# Altium schematic symbol library IC.SchLib: 96 symbols
Pins are listed as number, name and electrical type; pins without a type are passive.

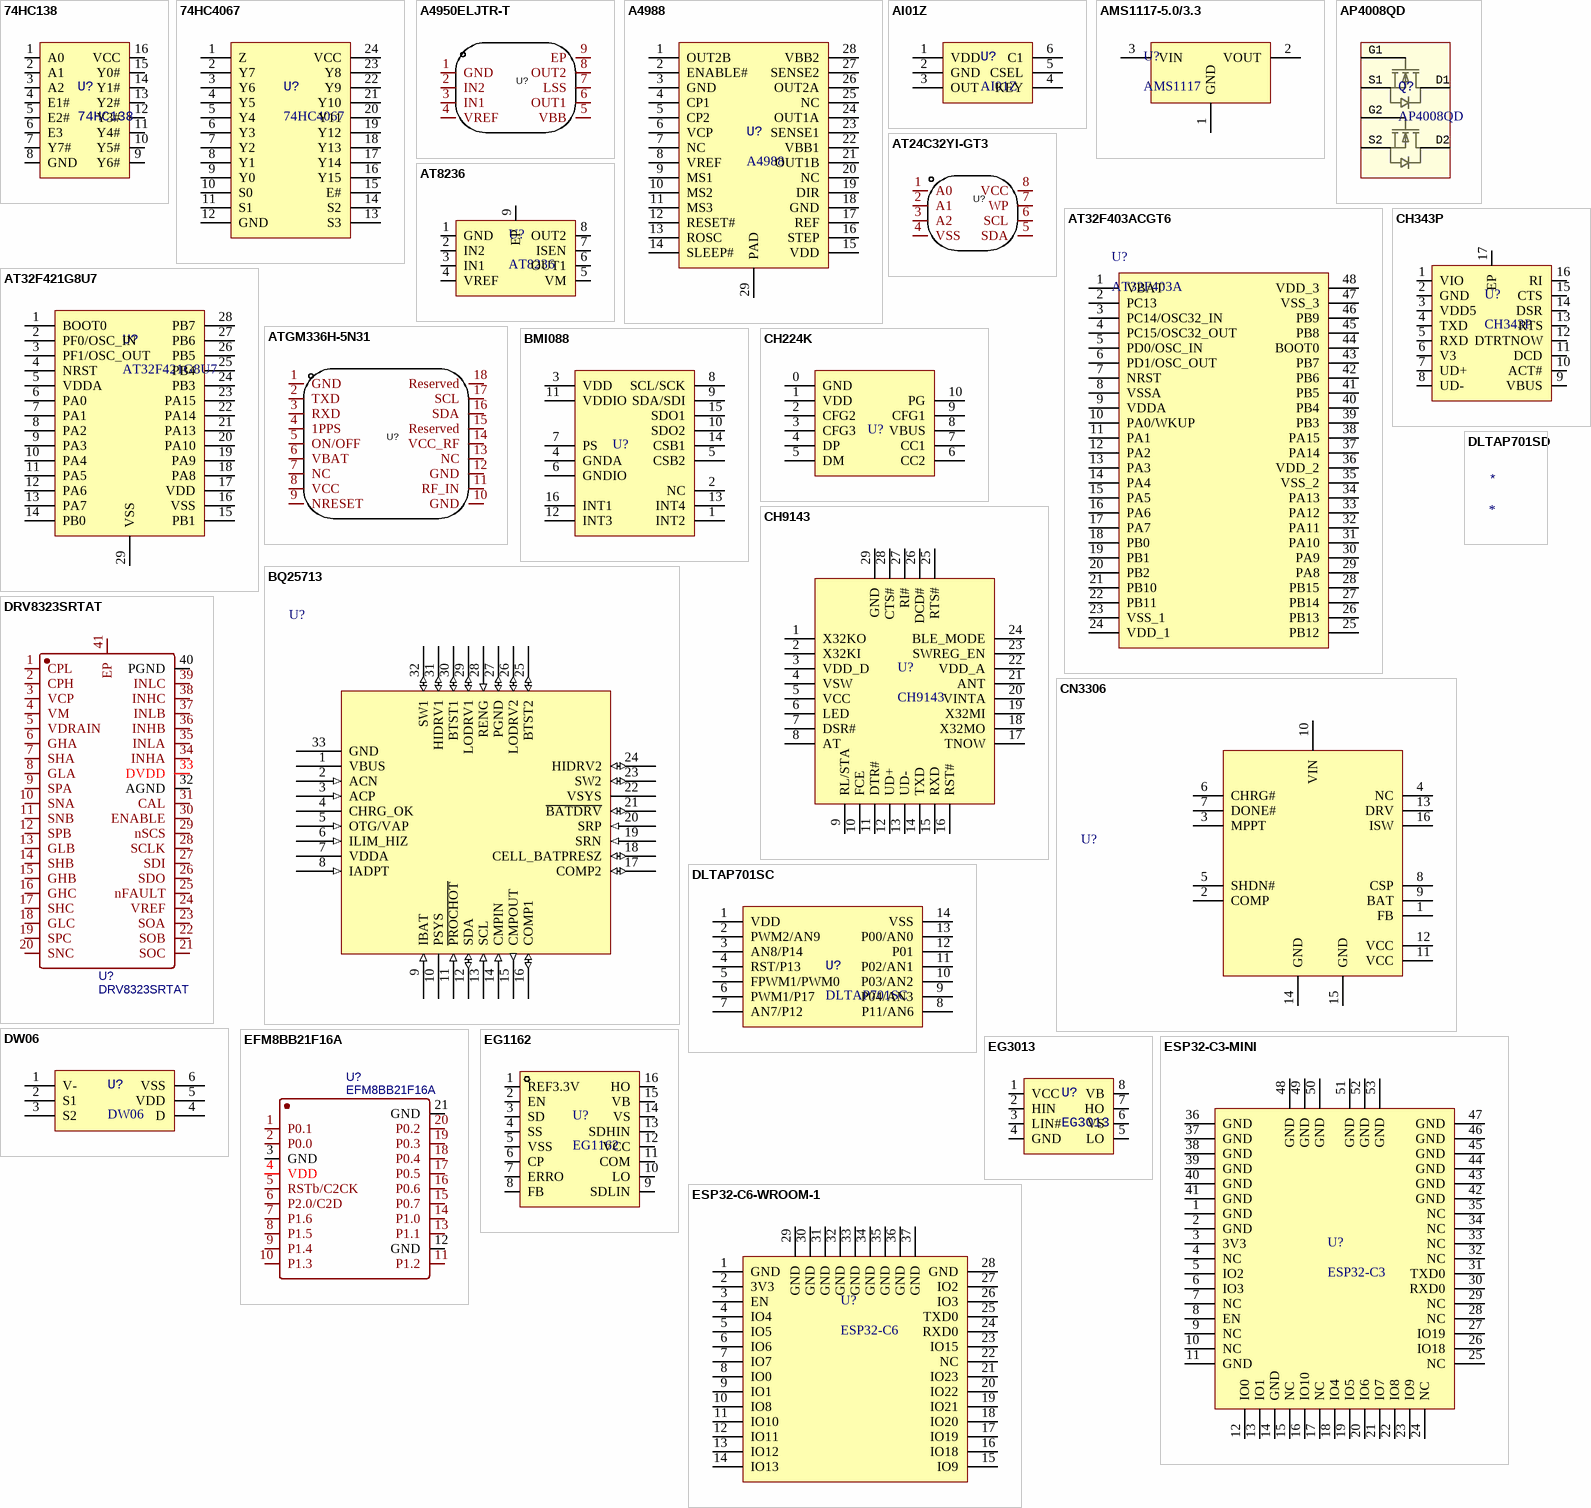
[diagram p0: symbols 74HC138 to ESP32-C6-WROOM-1]

## 74HC138
designator U?
footprint SOP-16_L9.9-W3.9-P1.27-LS6.0-BL
pins: 1 A0, 2 A1, 3 A2, 4 E1#, 5 E2#, 6 E3, 7 Y7#, 8 GND, 9 Y6#, 10 Y5#, 11 Y4#, 12 Y3#, 13 Y2#, 14 Y1#, 15 Y0#, 16 VCC

## 74HC4067
designator U?
footprint SOIC-24_L15.4-W7.5-P1.27-LS10.3-BL
pins: 1 Z, 2 Y7, 3 Y6, 4 Y5, 5 Y4, 6 Y3, 7 Y2, 8 Y1, 9 Y0, 10 S0, 11 S1, 12 GND, 13 S3, 14 S2, 15 E#, 16 Y15, 17 Y14, 18 Y13, 19 Y12, 20 Y11, 21 Y10, 22 Y9, 23 Y8, 24 VCC

## A4950ELJTR-T
designator U?  (value not drawn)
Manufacturer: ALLEGRO(美国埃戈罗); Add into BOM: yes; Name: A4950ELJTR-T; Symbol: A4950ELJTR-T; Device: A4950ELJTR-T; LCSC Part Name: A4950ELJTR-T; Supplier Part: C82404; Manufacturer Part: A4950ELJTR-T; Supplier Footprint: SOIC-8_EP_150mil; JLCPCB Part Class: Extended Part; Datasheet: https://atta.szlcsc.com/upload/public/pdf/source/20161024/1477288450284.pdf; Supplier: LCSC; Convert to PCB: yes
footprint SOIC-8_L4.9-W3.9-P1.27-LS6.0-BL-EP
pins: 1 GND, 2 IN2, 3 IN1, 4 VREF, 5 VBB, 6 OUT1, 7 LSS, 8 OUT2, 9 EP

## A4988
designator U?
footprint WQFN-28_L5.0-W5.0-P0.50-BL-EP3.2
pins: 1 OUT2B, 2 ENABLE#, 3 GND, 4 CP1, 5 CP2, 6 VCP, 7 NC, 8 VREF, 9 MS1, 10 MS2, 11 MS3, 12 RESET#, 13 ROSC, 14 SLEEP#, 15 VDD, 16 STEP, 17 REF, 18 GND, 19 DIR, 20 NC, 21 OUT1B, 22 VBB1, 23 SENSE1, 24 OUT1A, 25 NC, 26 OUT2A, 27 SENSE2, 28 VBB2, 29 PAD

## AI01Z
designator U?
footprint SOT-23-6_L2.9-W1.6-P0.95-LS2.8-TL
pins: 1 VDD, 2 GND, 3 OUT, 4 KEY, 5 CSEL, 6 C1

## AMS1117-5.0/3.3
designator U?, comment AMS1117
footprint SOT-223_L6.7-W3.5-P2.30-BR
footprint SOT-89_L4.5-W2.5-P1.50-LS4.2-BR
pins: 1 GND, 2 VOUT, 3 VIN

## AP4008QD
designator Q?
footprint DFN-8_L3.2-W3.2-P0.65-LS3.4-BL-EP
pins: 1 S1, 2 G1, 3 S2, 4 G2, 5 D2, 6 D1

## AT24C32YI-GT3
designator U?, comment CAT24C32YI-GT3  (value not drawn)
Manufacturer: onsemi(安森美); Add into BOM: yes; Name: CAT24C32YI-GT3; Symbol: CAT24C32YI-GT3; Device: CAT24C32YI-GT3; LCSC Part Name: CAT24C32YI-GT3; Supplier Part: C94264; Manufacturer Part: CAT24C32YI-GT3; Supplier Footprint: TSSOP-8-3.0mm; JLCPCB Part Class: Extended Part; Datasheet: https://atta.szlcsc.com/upload/public/pdf/source/20180713/C94264_8C8F7CE8A04B19AA8501D6BFE0F814F1.pdf; Supplier: LCSC; Convert to PCB: yes
footprint TSSOP-8_L4.4-W3.0-P0.65-LS6.4-BL
pins: 1 A0, 2 A1, 3 A2, 4 VSS, 5 SDA, 6 SCL, 7 WP, 8 VCC

## AT32F403ACGT6
designator U?, comment AT32F403A
footprint LQFP-48_L7.0-W7.0-P0.50-LS9.0-BL
pins: 1 VBAT, 2 PC13, 3 PC14/OSC32_IN, 4 PC15/OSC32_OUT, 5 PD0/OSC_IN, 6 PD1/OSC_OUT, 7 NRST, 8 VSSA, 9 VDDA, 10 PA0/WKUP, 11 PA1, 12 PA2, 13 PA3, 14 PA4, 15 PA5, 16 PA6, 17 PA7, 18 PB0, 19 PB1, 20 PB2, 21 PB10, 22 PB11, 23 VSS_1, 24 VDD_1, 25 PB12, 26 PB13, 27 PB14, 28 PB15, 29 PA8, 30 PA9, 31 PA10, 32 PA11, 33 PA12, 34 PA13, 35 VSS_2, 36 VDD_2, 37 PA14, 38 PA15, 39 PB3, 40 PB4, 41 PB5, 42 PB6, 43 PB7, 44 BOOT0, 45 PB8, 46 PB9, 47 VSS_3, 48 VDD_3

## AT32F421G8U7
designator U?
footprint QFN-28_L4.0-W4.0-P0.40-TL-EP2.4
pins: 1 BOOT0, 2 PF0/OSC_IN, 3 PF1/OSC_OUT, 4 NRST, 5 VDDA, 6 PA0, 7 PA1, 8 PA2, 9 PA3, 10 PA4, 11 PA5, 12 PA6, 13 PA7, 14 PB0, 15 PB1, 16 VSS, 17 VDD, 18 PA8, 19 PA9, 20 PA10, 21 PA13, 22 PA14, 23 PA15, 24 PB3, 25 PB4, 26 PB5, 27 PB6, 28 PB7, 29 VSS

## AT8236
designator U?
footprint ESOP-8_L4.9-W3.9-P1.27-LS6.0-BL-EP
pins: 1 GND, 2 IN2, 3 IN1, 4 VREF, 5 VM, 6 OUT1, 7 ISEN, 8 OUT2, 9 EP

## ATGM336H-5N31
designator U?  (value not drawn)
Manufacturer: 杭州中科微; Add into BOM: yes; Name: ATGM336H-5N31; Symbol: ATGM336H-5N31; Device: ATGM336H-5N31; LCSC Part Name: BDS/GNSS 全星座定位导航模块; Supplier Part: C90770; Manufacturer Part: ATGM336H-5N31; Supplier Footprint: SMD,9.7x10.1mm; JLCPCB Part Class: Extended Part; Datasheet: https://atta.szlcsc.com/upload/public/pdf/source/20161226/1482720799860.pdf; Supplier: LCSC; Convert to PCB: yes
footprint GPSM-SMD_ATGM336H-TR
pins: 1 GND, 2 TXD, 3 RXD, 4 1PPS, 5 ON/OFF, 6 VBAT, 7 NC, 8 VCC, 9 NRESET, 10 GND, 11 RF_IN, 12 GND, 13 NC, 14 VCC_RF, 15 Reserved, 16 SDA, 17 SCL, 18 Reserved

## BMI088
designator U?  (value not drawn)
footprint LGA-16_L4.5-W3.0-P0.50-BL
pins: 1 INT2, 2 NC, 3 VDD, 4 GNDA, 5 CSB2, 6 GNDIO, 7 PS, 8 SCL/SCK, 9 SDA/SDI, 10 SDO2, 11 VDDIO, 12 INT3, 13 INT4, 14 CSB1, 15 SDO1, 16 INT1

## BQ25713
designator U?  (value not drawn)
footprint QFN-32_L4.0-W4.0-P0.40-TL-EP2.8
pins: 1 VBUS (power), 2 ACN (in), 3 ACP (in), 4 CHRG_OK (oc), 5 OTG/VAP (in), 6 ILIM_HIZ (in), 7 VDDA (power), 8 IADPT (in), 9 IBAT (in), 10 PSYS (power), 11 ~{PROCHOT} (in), 12 SDA (io), 13 SCL (in), 14 CMPIN (in), 15 CMPOUT (out), 16 COMP1 (io), 17 COMP2 (io), 18 CELL_BATPRESZ (io), 19 SRN (in), 20 SRP (in), 21 ~{BATDRV} (io), 22 VSYS (power), 23 SW2 (io), 24 HIDRV2 (io), 25 BTST2 (io), 26 LODRV2 (io), 27 PGND (io), 28 RENG (in), 29 LODRV1 (io), 30 BTST1 (io), 31 HIDRV1 (io), 32 SW1 (io), 33 GND (power)

## CH224K
designator U?  (value not drawn)
footprint ESSOP-10_L4.9-W3.9-P1.0-LS6.0-TL-EP
pins: 0 GND, 1 VDD, 2 CFG2, 3 CFG3, 4 DP, 5 DM, 6 CC2, 7 CC1, 8 VBUS, 9 CFG1, 10 PG

## CH343P
designator U?
footprint TQFN-16_L3.0-W3.0-P0.50-BL-EP1.7
pins: 1 VIO, 2 GND, 3 VDD5, 4 TXD, 5 RXD, 6 V3, 7 UD+, 8 UD-, 9 VBUS, 10 ACT#, 11 DCD, 12 DTRTNOW, 13 RTS, 14 DSR, 15 CTS, 16 RI, 17 EP

## CH9143
designator U?
footprint QFN-28_L4.0-W4.0-P0.40-BL-EP2.7
pins: 1 X32KO, 2 X32KI, 3 VDD_D, 4 VSW, 5 VCC, 6 LED, 7 DSR#, 8 AT, 9 RL/STA, 10 FCE, 11 DTR#, 12 UD+, 13 UD-, 14 TXD, 15 RXD, 16 RST#, 17 TNOW, 18 X32MO, 19 X32MI, 20 VINTA, 21 ANT, 22 VDD_A, 23 SWREG_EN, 24 BLE_MODE, 25 RTS#, 26 DCD#, 27 RI#, 28 CTS#, 29 GND

## CN3306
designator U?
footprint TSSOP-16_L5.0-W4.4-P0.65-LS6.4-BL
pins: 1 FB, 2 COMP, 3 MPPT, 4 NC, 5 SHDN#, 6 CHRG#, 7 DONE#, 8 CSP, 9 BAT, 10 VIN, 11 VCC, 12 VCC, 13 DRV, 14 GND, 15 GND, 16 ISW

## DLTAP701SC
designator U?
footprint SOP-14_L8.6-W3.9-P1.27-LS6.0-BL
pins: 1 VDD, 2 PWM2/AN9, 3 AN8/P14, 4 RST/P13, 5 FPWM1/PWM0, 6 PWM1/P17, 7 AN7/P12, 8 P11/AN6, 9 P04/AN3, 10 P03/AN2, 11 P02/AN1, 12 P01, 13 P00/AN0, 14 VSS

## DLTAP701SD
designator *

## DRV8323SRTAT
designator U?
BOM_Manufacturer: TI(德州仪器); Contributor: LCSC; BOM_Supplier: LCSC; BOM_Supplier Part: C2150452; BOM_Manufacturer Part: DRV8323SRTAT; spicePre: U; spiceSymbolName: DRV8323SRTAT
footprint WQFN-40_L6.0-W6.0-P0.50-TL-EP4.5
pins: 1 CPL, 2 CPH, 3 VCP, 4 VM, 5 VDRAIN, 6 GHA, 7 SHA, 8 GLA, 9 SPA, 10 SNA, 11 SNB, 12 SPB, 13 GLB, 14 SHB, 15 GHB, 16 GHC, 17 SHC, 18 GLC, 19 SPC, 20 SNC, 21 SOC, 22 SOB, 23 SOA, 24 VREF, 25 nFAULT, 26 SDO, 27 SDI, 28 SCLK, 29 nSCS, 30 ENABLE, 31 CAL, 32 AGND, 33 DVDD, 34 INHA, 35 INLA, 36 INHB, 37 INLB, 38 INHC, 39 INLC, 40 PGND, 41 EP

## DW06
designator U?
footprint SOT-23-6_L2.9-W1.6-P0.95-LS2.8-TL
pins: 1 V-, 2 S1, 3 S2, 4 D, 5 VDD, 6 VSS

## EFM8BB21F16A
designator U?
BOM_Manufacturer: SILICON LABS(芯科); BOM_Manufacturer Part: EFM8BB21F16A-C-QFN20R; Contributor: lcsc; BOM_Supplier: LCSC; BOM_Supplier Part: C2054381; link: https://atta.szlcsc.com/upload/public/pdf/source/20210607/B3AA29710ABA684F935787BFDAD5E5DE.pdf; spicePre: U; spiceSymbolName: EFM8BB21F16A-C-QFN20R
footprint QFN-20_L3.0-W3.0-P0.50-TL-EP1.7
pins: 1 P0.1, 2 P0.0, 3 GND, 4 VDD, 5 RSTb/C2CK, 6 P2.0/C2D, 7 P1.6, 8 P1.5, 9 P1.4, 10 P1.3, 11 P1.2, 12 GND, 13 P1.1, 14 P1.0, 15 P0.7, 16 P0.6, 17 P0.5, 18 P0.4, 19 P0.3, 20 P0.2, 21 GND

## EG1162
designator U?
footprint SOP-16_L9.9-W3.9-P1.27-LS6.0-BL
pins: 1 REF3.3V, 2 EN, 3 SD, 4 SS, 5 VSS, 6 CP, 7 ERRO, 8 FB, 9 SDLIN, 10 LO, 11 COM, 12 VCC, 13 SDHIN, 14 VS, 15 VB, 16 HO

## EG3013
designator U?
footprint SO-8_L4.9-W3.9-P1.27-LS5.9-BL
pins: 1 VCC, 2 HIN, 3 LIN#, 4 GND, 5 LO, 6 VS, 7 HO, 8 VB

## ESP32-C3-MINI
designator U?, comment ESP32-C3
footprint WIFIM-SMD_ESP32-C3-MINI-1
pins: 1 GND, 2 GND, 3 3V3, 4 NC, 5 IO2, 6 IO3, 7 NC, 8 EN, 9 NC, 10 NC, 11 GND, 12 IO0, 13 IO1, 14 GND, 15 NC, 16 IO10, 17 NC, 18 IO4, 19 IO5, 20 IO6, 21 IO7, 22 IO8, 23 IO9, 24 NC, 25 NC, 26 IO18, 27 IO19, 28 NC, 29 NC, 30 RXD0, 31 TXD0, 32 NC, 33 NC, 34 NC, 35 NC, 36 GND, 37 GND, 38 GND, 39 GND, 40 GND, 41 GND, 42 GND, 43 GND, 44 GND, 45 GND, 46 GND, 47 GND, 48 GND, 49 GND, 50 GND, 51 GND, 52 GND, 53 GND

## ESP32-C6-WROOM-1
designator U?, comment ESP32-C6
footprint WIRELM-SMD_ESP32-C6-WROOM-1
pins: 1 GND, 2 3V3, 3 EN, 4 IO4, 5 IO5, 6 IO6, 7 IO7, 8 IO0, 9 IO1, 10 IO8, 11 IO10, 12 IO11, 13 IO12, 14 IO13, 15 IO9, 16 IO18, 17 IO19, 18 IO20, 19 IO21, 20 IO22, 21 IO23, 22 NC, 23 IO15, 24 RXD0, 25 TXD0, 26 IO3, 27 IO2, 28 GND, 29 GND, 30 GND, 31 GND, 32 GND, 33 GND, 34 GND, 35 GND, 36 GND, 37 GND

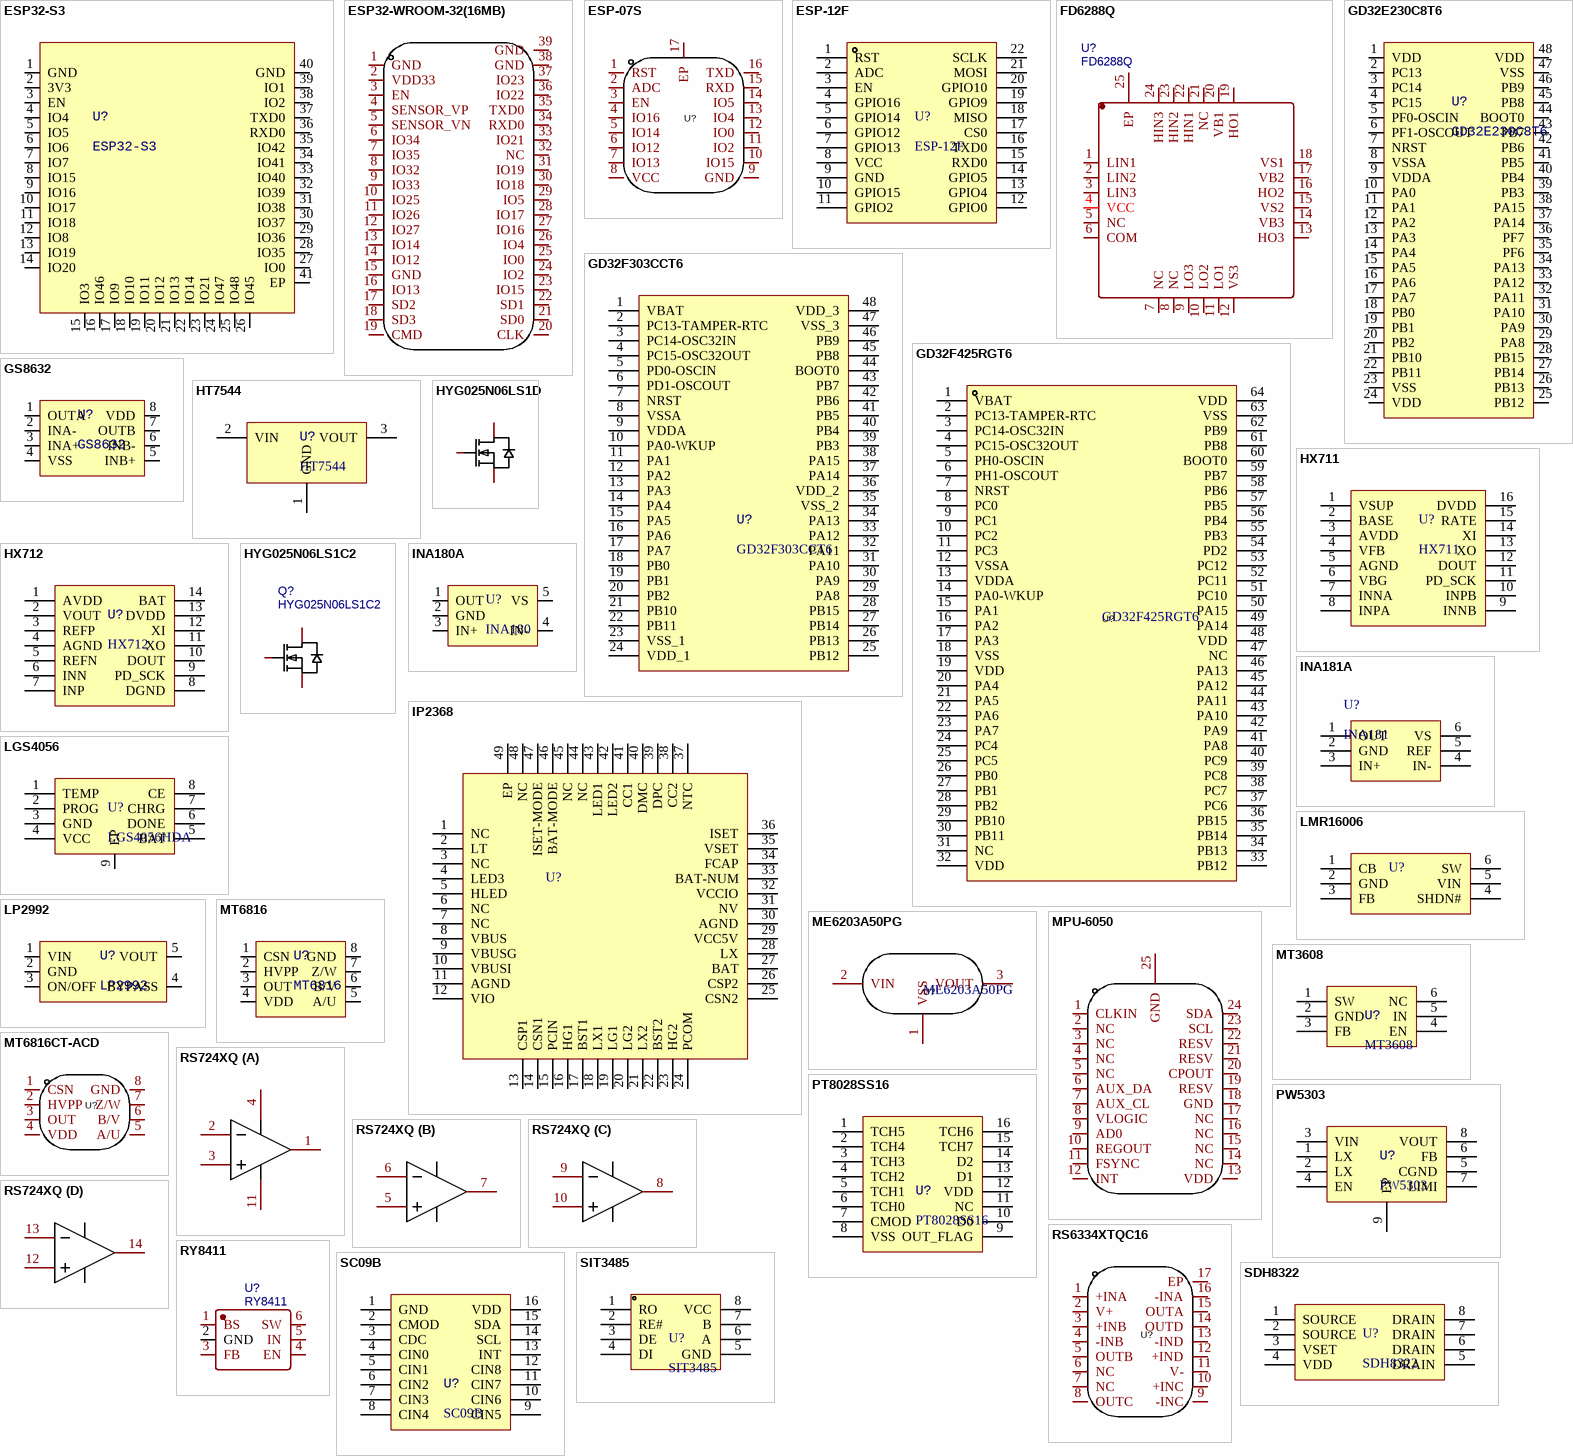
[diagram p1: symbols ESP32-S3 to SIT3485]

## ESP32-S3
designator U?
footprint WIFIM-SMD_ESP32-S3-WROOM-1-N8
pins: 1 GND, 2 3V3, 3 EN, 4 IO4, 5 IO5, 6 IO6, 7 IO7, 8 IO15, 9 IO16, 10 IO17, 11 IO18, 12 IO8, 13 IO19, 14 IO20, 15 IO3, 16 IO46, 17 IO9, 18 IO10, 19 IO11, 20 IO12, 21 IO13, 22 IO14, 23 IO21, 24 IO47, 25 IO48, 26 IO45, 27 IO0, 28 IO35, 29 IO36, 30 IO37, 31 IO38, 32 IO39, 33 IO40, 34 IO41, 35 IO42, 36 RXD0, 37 TXD0, 38 IO2, 39 IO1, 40 GND, 41 EP

## ESP32-WROOM-32(16MB)
designator U?  (value not drawn)
Manufacturer: ESPRESSIF(乐鑫); Add into BOM: yes; Name: ESP32-WROOM-32(16MB); Symbol: ESP32-WROOM-32(16MB); Device: ESP32-WROOM-32(16MB); LCSC Part Name: ESP32-WROOM-32(16MB); Supplier Part: C529581; Manufacturer Part: ESP32-WROOM-32(16MB); Supplier Footprint: Module; JLCPCB Part Class: Extended Part; Datasheet: https://atta.szlcsc.com/upload/public/pdf/source/20200521/C529581_8F7B9F041ADB7CF235FBC8D159B9C4FF.pdf; Supplier: LCSC; Convert to PCB: yes
footprint WIFIM-SMD_39P-L25.5-W18.0-P1.27
pins: 1 GND, 2 VDD33, 3 EN, 4 SENSOR_VP, 5 SENSOR_VN, 6 IO34, 7 IO35, 8 IO32, 9 IO33, 10 IO25, 11 IO26, 12 IO27, 13 IO14, 14 IO12, 15 GND, 16 IO13, 17 SD2, 18 SD3, 19 CMD, 20 CLK, 21 SD0, 22 SD1, 23 IO15, 24 IO2, 25 IO0, 26 IO4, 27 IO16, 28 IO17, 29 IO5, 30 IO18, 31 IO19, 32 NC, 33 IO21, 34 RXD0, 35 TXD0, 36 IO22, 37 IO23, 38 GND, 39 GND

## ESP-07S
designator U?, comment ESP-07S_C82895  (value not drawn)
Manufacturer: Ai-Thinker(安信可); Add into BOM: yes; Name: ESP-07S; Symbol: ESP-07S; Device: ESP-07S_C82895; LCSC Part Name: ESP-07S; Supplier Part: C82895; Manufacturer Part: ESP-07S; Supplier Footprint: WIFI Module; JLCPCB Part Class: Extended Part; Datasheet: https://atta.szlcsc.com/upload/public/pdf/source/20161024/1477288471743.pdf; Supplier: LCSC; Convert to PCB: yes
footprint WIRELM-SMD_ESP-07S
pins: 1 RST, 2 ADC, 3 EN, 4 IO16, 5 IO14, 6 IO12, 7 IO13, 8 VCC, 9 GND, 10 IO15, 11 IO2, 12 IO0, 13 IO4, 14 IO5, 15 RXD, 16 TXD, 17 EP

## ESP-12F
designator U?
footprint WIFIM-SMD_ESP-12F-ESP8266MOD
pins: 1 RST, 2 ADC, 3 EN, 4 GPIO16, 5 GPIO14, 6 GPIO12, 7 GPIO13, 8 VCC, 9 GND, 10 GPIO15, 11 GPIO2, 12 GPIO0, 13 GPIO4, 14 GPIO5, 15 RXD0, 16 TXD0, 17 CS0, 18 MISO, 19 GPIO9, 20 GPIO10, 21 MOSI, 22 SCLK

## FD6288Q
designator U?
BOM_Manufacturer: Fortior Tech; Contributor: LCSC; BOM_Supplier: LCSC; BOM_Supplier Part: C328453; BOM_Manufacturer Part: FD6288Q; BOM_JLCPCB Part Class: Extended Part; spicePre: U; spiceSymbolName: FD6288Q_C328453
footprint QFN-24_L4.0-W4.0-P0.50-BL-EP2.6
pins: 1 LIN1, 2 LIN2, 3 LIN3, 4 VCC, 5 NC, 6 COM, 7 NC, 8 NC, 9 LO3, 10 LO2, 11 LO1, 12 VS3, 13 HO3, 14 VB3, 15 VS2, 16 HO2, 17 VB2, 18 VS1, 19 HO1, 20 VB1, 21 NC, 22 HIN1, 23 HIN2, 24 HIN3, 25 EP

## GD32E230C8T6
designator U?
footprint LQFP-48_L7.0-W7.0-P0.50-LS9.0-BL
pins: 1 VDD, 2 PC13, 3 PC14, 4 PC15, 5 PF0-OSCIN, 6 PF1-OSCOUT, 7 NRST, 8 VSSA, 9 VDDA, 10 PA0, 11 PA1, 12 PA2, 13 PA3, 14 PA4, 15 PA5, 16 PA6, 17 PA7, 18 PB0, 19 PB1, 20 PB2, 21 PB10, 22 PB11, 23 VSS, 24 VDD, 25 PB12, 26 PB13, 27 PB14, 28 PB15, 29 PA8, 30 PA9, 31 PA10, 32 PA11, 33 PA12, 34 PA13, 35 PF6, 36 PF7, 37 PA14, 38 PA15, 39 PB3, 40 PB4, 41 PB5, 42 PB6, 43 PB7, 44 BOOT0, 45 PB8, 46 PB9, 47 VSS, 48 VDD

## GD32F303CCT6
designator U?
footprint LQFP-48_L7.0-W7.0-P0.50-LS9.0-BL
pins: 1 VBAT, 2 PC13-TAMPER-RTC, 3 PC14-OSC32IN, 4 PC15-OSC32OUT, 5 PD0-OSCIN, 6 PD1-OSCOUT, 7 NRST, 8 VSSA, 9 VDDA, 10 PA0-WKUP, 11 PA1, 12 PA2, 13 PA3, 14 PA4, 15 PA5, 16 PA6, 17 PA7, 18 PB0, 19 PB1, 20 PB2, 21 PB10, 22 PB11, 23 VSS_1, 24 VDD_1, 25 PB12, 26 PB13, 27 PB14, 28 PB15, 29 PA8, 30 PA9, 31 PA10, 32 PA11, 33 PA12, 34 PA13, 35 VSS_2, 36 VDD_2, 37 PA14, 38 PA15, 39 PB3, 40 PB4, 41 PB5, 42 PB6, 43 PB7, 44 BOOT0, 45 PB8, 46 PB9, 47 VSS_3, 48 VDD_3

## GD32F425RGT6
designator U?
Manufacturer: GigaDevice(兆易创新); Symbol: GD32F425RGT6_C5110337; Add into BOM: yes; CPU Core: ARM Cortex-M4; CPU Maximum Speed: 200MHz; Program Storage Size: 1MB; Program Memory Type: FLASH; RAM Size: 256KB; GPIO Ports Number: 51; ADC (Bit): 12bit; 16Bit Timer: 12; 32Bit Timer: 2; UART/USART: 6; I2C: 3; Universal Serial Bus: 有; Peripheral/Function: 看门狗；SDIO；RTC实时时钟; Name: GD32F425RGT6; Device: GD32F425RGT6_C5110337; LCSC Part Name: ARM Cortex-M4 200MHz; Supplier Part: C5110337; Manufacturer Part: GD32F425RGT6; Supplier Footprint: LQFP-64(10x10); JLCPCB Part Class: Extended Part; Datasheet: https://atta.szlcsc.com/upload/public/pdf/source/20220714/13D48AB36408F15A7501F309CB28955F.pdf; Supplier: LCSC; Convert to PCB: yes; Operating Voltage Range: -; EEPROM: -; DAC (Bit): 12bit; PWM (Bit): -; 8Bit Timer: -; CAN: 2; I2S: 2; SPI: 3; Internal Comparator: -; communication protocol: -; Watchdog: 有; Real-Time Clock: 有; Infrared Data Association: -; Low-Voltage Detect: -; CCP Capture/Compare: -; Secure Digital Input and Output: 有; Direct Memory Access: -; Internal Oscillator: -; Operating Temperature Range: -
footprint LQFP-64_L10.0-W10.0-P0.50-LS12.0-BL - duplicate
pins: 1 VBAT, 2 PC13-TAMPER-RTC, 3 PC14-OSC32IN, 4 PC15-OSC32OUT, 5 PH0-OSCIN, 6 PH1-OSCOUT, 7 NRST, 8 PC0, 9 PC1, 10 PC2, 11 PC3, 12 VSSA, 13 VDDA, 14 PA0-WKUP, 15 PA1, 16 PA2, 17 PA3, 18 VSS, 19 VDD, 20 PA4, 21 PA5, 22 PA6, 23 PA7, 24 PC4, 25 PC5, 26 PB0, 27 PB1, 28 PB2, 29 PB10, 30 PB11, 31 NC, 32 VDD, 33 PB12, 34 PB13, 35 PB14, 36 PB15, 37 PC6, 38 PC7, 39 PC8, 40 PC9, 41 PA8, 42 PA9, 43 PA10, 44 PA11, 45 PA12, 46 PA13, 47 NC, 48 VDD, 49 PA14, 50 PA15, 51 PC10, 52 PC11, 53 PC12, 54 PD2, 55 PB3, 56 PB4, 57 PB5, 58 PB6, 59 PB7, 60 BOOT0, 61 PB8, 62 PB9, 63 VSS, 64 VDD

## GS8632
designator U?
footprint MSOP-8_L3.0-W3.0-P0.65-LS5.0-BL
pins: 1 OUTA, 2 INA-, 3 INA+, 4 VSS, 5   INB+, 6 INB-, 7 OUTB, 8 VDD

## HT7544
designator U?
footprint SOT-89_L4.5-W2.5-P1.50-LS4.2-BR
pins: 1 GND, 2 VIN, 3 VOUT

## HX711
designator U?
footprint SOP-16_L10.0-W3.9-P1.27-LS6.0-BL
pins: 1 VSUP, 2 BASE, 3 AVDD, 4 VFB, 5 AGND, 6 VBG, 7 INNA, 8 INPA, 9 INNB, 10 INPB, 11 PD_SCK, 12 DOUT, 13 XO, 14 XI, 15 RATE, 16 DVDD

## HX712
designator U?
pins: 1 AVDD, 2 VOUT, 3 REFP, 4 AGND, 5 REFN, 6 INN, 7 INP, 8 DGND, 9 PD_SCK, 10 DOUT, 11 XO, 12 XI, 13 DVDD, 14 BAT

## HYG025N06LS1C2
designator Q?
BOM_Manufacturer: HUAYI(华羿微); Contributor: LCSC; BOM_Supplier: LCSC; BOM_Supplier Part: C2827231; BOM_Manufacturer Part: HYG025N06LS1C2; BOM_JLCPCB Part Class: Extended Part; spicePre: Q; spiceSymbolName: HYG025N06LS1C2
footprint DFN-8_L5.9-W5.2-P1.27-LS6.2-BL
pins: 1 G, 2 S, 3 D

## HYG025N06LS1D
designator Q?  (value not drawn)
Manufacturer: HUAYI(华羿微); Add into BOM: yes; Type: N沟道; Drain Source Voltage (Vdss): 60V; Continuous Drain Current (Id): 160A; Power Dissipation (Pd): 125W; Drain Source On Resistance (RDS(on)@Vgs,Id): 2.6mΩ@10V,40A; Gate Threshold Voltage (Vgs(th)@Id): 2.1V@250uA; Total Gate Charge (Qg@Vgs): 58.3nC@10V; Input Capacitance (Ciss@Vds): 3.915nF@25V; Reverse Transfer Capacitance (Crss@Vds): 10.2pF@25V; Name: HYG025N06LS1D; Symbol: HYG025N06LS1D; Device: HYG025N06LS1D; LCSC Part Name: N沟道 60V 160A; Supplier Part: C2891600; Manufacturer Part: HYG025N06LS1D; Supplier Footprint: TO-252-2L; JLCPCB Part Class: Extended Part; Datasheet: https://atta.szlcsc.com/upload/public/pdf/source/20210903/CB89CD13B903BA83DF3C993EF29D866D.pdf; Supplier: LCSC; Convert to PCB: yes; Operating Temperature: +175℃@(Tj)
footprint TO-252-2_L6.6-W6.0-P4.58-LS10.1-BR
3D model TO-252-2_L6.6-W6.0-P4.58-LS10.1-BR
pins: 1 G, 2 D, 3 S

## INA180A
designator U?, comment INA180
footprint SOT-25_L3.0-W1.6-P0.95-LS2.8-BL
pins: 1 OUT, 2 GND, 3 IN+, 4 IN-, 5 VS

## INA181A
designator U?, comment INA181
footprint SOT-23-6_L2.9-W1.6-P0.95-LS2.8-TL
pins: 1 OUT, 2 GND, 3 IN+, 4 IN-, 5 REF, 6 VS

## IP2368
designator U?  (value not drawn)
footprint UFQFPN-48_L7.0-W7.0-P0.50-BL-EP
pins: 1 NC, 2 LT, 3 NC, 4 LED3, 5 HLED, 6 NC, 7 NC, 8 VBUS, 9 VBUSG, 10 VBUSI, 11 AGND, 12 VIO, 13 CSP1, 14 CSN1, 15 PCIN, 16 HG1, 17 BST1, 18 LX1, 19 LG1, 20 LG2, 21 LX2, 22 BST2, 23 HG2, 24 PCOM, 25 CSN2, 26 CSP2, 27 BAT, 28 LX, 29 VCC5V, 30 AGND, 31 NV, 32 VCCIO, 33 BAT-NUM, 34 FCAP, 35 VSET, 36 ISET, 37 NTC, 38 CC2, 39 DPC, 40 DMC, 41 CC1, 42 LED2, 43 LED1, 44 NC, 45 NC, 46 BAT-MODE, 47 ISET-MODE, 48 NC, 49 EP

## LGS4056
designator U?, comment LGS4056HDA
footprint DFN-8_L2.0-W2.0-P0.50-TL-EP1.6
pins: 1 TEMP, 2 PROG, 3 GND, 4 VCC, 5 BAT, 6 DONE, 7 CHRG, 8 CE, 9 EP

## LMR16006
designator U?  (value not drawn)
footprint SOT-23-6_L2.9-W1.6-P0.95-LS2.8-TL
pins: 1 CB, 2 GND, 3 FB, 4 SHDN#, 5 VIN, 6 SW

## LP2992
designator U?
footprint SOT-25_L3.0-W1.6-P0.95-LS2.8-BL
pins: 1 VIN, 2 GND, 3 ON/OFF, 4 BYPASS, 5 VOUT

## ME6203A50PG
designator U?
Manufacturer: MICRONE(南京微盟); Add into BOM: yes; Output Type: 固定; Output Polarity: 正; Number of Outputs: 1; Maximum Input Voltage: 30V; Output Voltage: 5V; Output Current: 100mA; Power Supply Rejection Ratio (PSRR): 40dB@(1kHz); Name: ME6203A50PG; Symbol: ME6203A50PG; Device: ME6203A50PG; LCSC Part Name: ME6203A50PG; Supplier Part: C94056; Manufacturer Part: ME6203A50PG; Supplier Footprint: SOT-89; JLCPCB Part Class: Extended Part; Datasheet: https://atta.szlcsc.com/upload/public/pdf/source/20170116/1484561288466.pdf; Supplier: LCSC; Convert to PCB: yes; Dropout Voltage: -
footprint SOT-89_L4.5-W2.5-P1.50-LS4.2-BR
pins: 1 VSS, 2 VIN, 3 VOUT

## MPU-6050
designator U?  (value not drawn)
Manufacturer: TDK InvenSense(应美盛); Symbol: MPU-6050_C24112; Add into BOM: yes; Name: MPU-6050; Device: MPU-6050; LCSC Part Name: MPU-6050; Supplier Part: C24112; Manufacturer Part: MPU-6050; Supplier Footprint: QFN-24_4x4x05P; JLCPCB Part Class: Extended Part; Datasheet: https://atta.szlcsc.com/upload/public/pdf/source/20140425/1457707046159.pdf; Supplier: LCSC; Convert to PCB: yes
footprint QFN-24_L4.0-W4.0-P0.50-BL-EP2.6
pins: 1 CLKIN, 2 NC, 3 NC, 4 NC, 5 NC, 6 AUX_DA, 7 AUX_CL, 8 VLOGIC, 9 AD0, 10 REGOUT, 11 FSYNC, 12 INT, 13 VDD, 14 NC, 15 NC, 16 NC, 17 NC, 18 GND, 19 RESV, 20 CPOUT, 21 RESV, 22 RESV, 23 SCL, 24 SDA, 25 GND

## MT3608
designator U?
footprint SOT-23-6_L2.9-W1.6-P0.95-LS2.8-TL
pins: 1 SW, 2 GND, 3 FB, 4  EN, 5 IN, 6 NC

## MT6816
designator U?
footprint SOP-8_L5.0-W4.0-P1.27-LS6.0-BL
pins: 1 CSN, 2 HVPP, 3 OUT, 4 VDD, 5 A/U, 6 B/V, 7 Z/W, 8 GND

## MT6816CT-ACD
designator U?  (value not drawn)
Manufacturer: MagnTek(麦歌恩); Add into BOM: yes; Name: MT6816CT-ACD; Symbol: MT6816CT-ACD; Device: MT6816CT-ACD; LCSC Part Name: 零延迟磁角位置传感器IC; Supplier Part: C879560; Manufacturer Part: MT6816CT-ACD; Supplier Footprint: SOP-8; JLCPCB Part Class: Extended Part; Datasheet: https://atta.szlcsc.com/upload/public/pdf/source/20201027/C879560_21F27A21E71569DDEA564795613A647F.pdf; Supplier: LCSC; Convert to PCB: yes
footprint SOP-8_L5.0-W4.0-P1.27-LS6.0-BL
pins: 1 CSN, 2 HVPP, 3 OUT, 4 VDD, 5 A/U, 6 B/V, 7 Z/W, 8 GND

## PT8028SS16
designator U?
footprint SOIC-16_L9.9-W3.9-P1.27-LS6.0-BL
pins: 1 TCH5, 2 TCH4, 3 TCH3, 4 TCH2, 5 TCH1, 6 TCH0, 7 CMOD, 8 VSS, 9 OUT_FLAG, 10 D0, 11 NC, 12 VDD, 13 D1, 14 D2, 15 TCH7, 16 TCH6

## PW5303
designator U?
footprint SOIC-8_L4.9-W3.9-P1.27-LS6.0-BL-EP
pins: 1 LX, 2 LX, 3 VIN, 4 EN, 5 CGND, 6 FB, 7 LIMI, 8 VOUT, 9 EP

## RS724XQ
designator U?  (value not drawn)
Manufacturer: RUNIC(润石); Add into BOM: yes; Number of Circuits: 四路; Gain Bandwidth Product(GBP): 10MHz; Current - Input Bias(Ib): 1pA; Slew Rate(SR): 7V/us; Output Current: 70mA; Symbol: RS724XQ; Device: RS724XQ; LCSC Part Name: 低噪声运放RS724XQ; Supplier Part: C255447; Manufacturer Part: RS724XQ; Supplier Footprint: TSSOP-14; JLCPCB Part Class: Extended Part; Datasheet: https://atta.szlcsc.com/upload/public/pdf/source/20180801/C255450_768C14DB83EE3551614887CE51AFCCB3.pdf; Supplier: LCSC; Convert to PCB: yes; -3db Bandwidth: -; Output Type: -; Rail to Rail: -; Operating Temperature: -40℃~+125℃
footprint TSSOP-14_L5.0-W4.4-P0.65-LS6.4-BL
part A pins: 1 OUTA, 2 -INA, 3 +INA, 4 V+, 11 V-
part B pins: 5 +INB, 6 -INB, 7 OUTB
part C pins: 8 OUTC, 9 -INC, 10 +INC
part D pins: 12 +IND, 13 -IND, 14 OUTD

## RS6334XTQC16
designator U?  (value not drawn)
Manufacturer: RUNIC(润石); Add into BOM: yes; Amplifier Type: CMOS; Number of Circuits: 4; Gain Bandwidth Product（GBP）: 1.1MHz; Slew Rate（SR）: 0.5 V/us; Output Type: Rail-to-Rail; Supply Voltage（Single）: 2.5V ~ 5.5V; Name: RS6334XTQC16; Symbol: RS6334XTQC16; Device: RS6334XTQC16; LCSC Part Name: 通用运放RS6334XTQC16; Supplier Part: C255460; Manufacturer Part: RS6334XTQC16; Supplier Footprint: TQFN-16L(3x3); JLCPCB Part Class: Extended Part; Datasheet: https://atta.szlcsc.com/upload/public/pdf/source/20180801/C255460_6D38F5AB5983591586153C18DBDED74E.pdf; Supplier: LCSC; Convert to PCB: yes; Iq per channel (Typ): -; Operating Temperature: -40°C ~ 125°C
footprint TQFN3X3-16L_L3.0-W3.0-P0.50-BL-EP1.7
pins: 1 +INA, 2 V+, 3 +INB, 4 -INB, 5 OUTB, 6 NC, 7 NC, 8 OUTC, 9 -INC, 10 +INC, 11 V-, 12 +IND, 13 -IND, 14 OUTD, 15 OUTA, 16 -INA, 17 EP

## RY8411
designator U?
BOM_Manufacturer: RYCHiP(蕊源); Contributor: LCSC; BOM_Supplier: LCSC; BOM_Supplier Part: C2935411; BOM_Manufacturer Part: RY8411; BOM_JLCPCB Part Class: Extended Part; spicePre: U; spiceSymbolName: RY8411_C2935411
footprint SOT-23-6_L2.9-W1.6-P0.95-LS2.8-TL
pins: 1 BS, 2 GND, 3 FB, 4 EN, 5 IN, 6 SW

## SC09B
designator U?
footprint SOP-16_L9.9-W3.9-P1.27-LS6.0-BL
pins: 1 GND, 2 CMOD, 3 CDC, 4 CIN0, 5 CIN1, 6 CIN2, 7 CIN3, 8 CIN4, 9 CIN5, 10 CIN6, 11 CIN7, 12 CIN8, 13 INT, 14 SCL, 15 SDA, 16 VDD

## SDH8322
designator U?
footprint SOP-8_L5.0-W4.0-P1.27-LS6.0-BL
pins: 1 SOURCE, 2 SOURCE, 3 VSET, 4 VDD, 5 DRAIN, 6 DRAIN, 7 DRAIN, 8 DRAIN

## SIT3485
designator U?
footprint SOP-8_L5.0-W4.0-P1.27-LS6.0-BL
pins: 1 RO, 2 RE#, 3 DE, 4 DI, 5 GND, 6 A, 7 B, 8 VCC

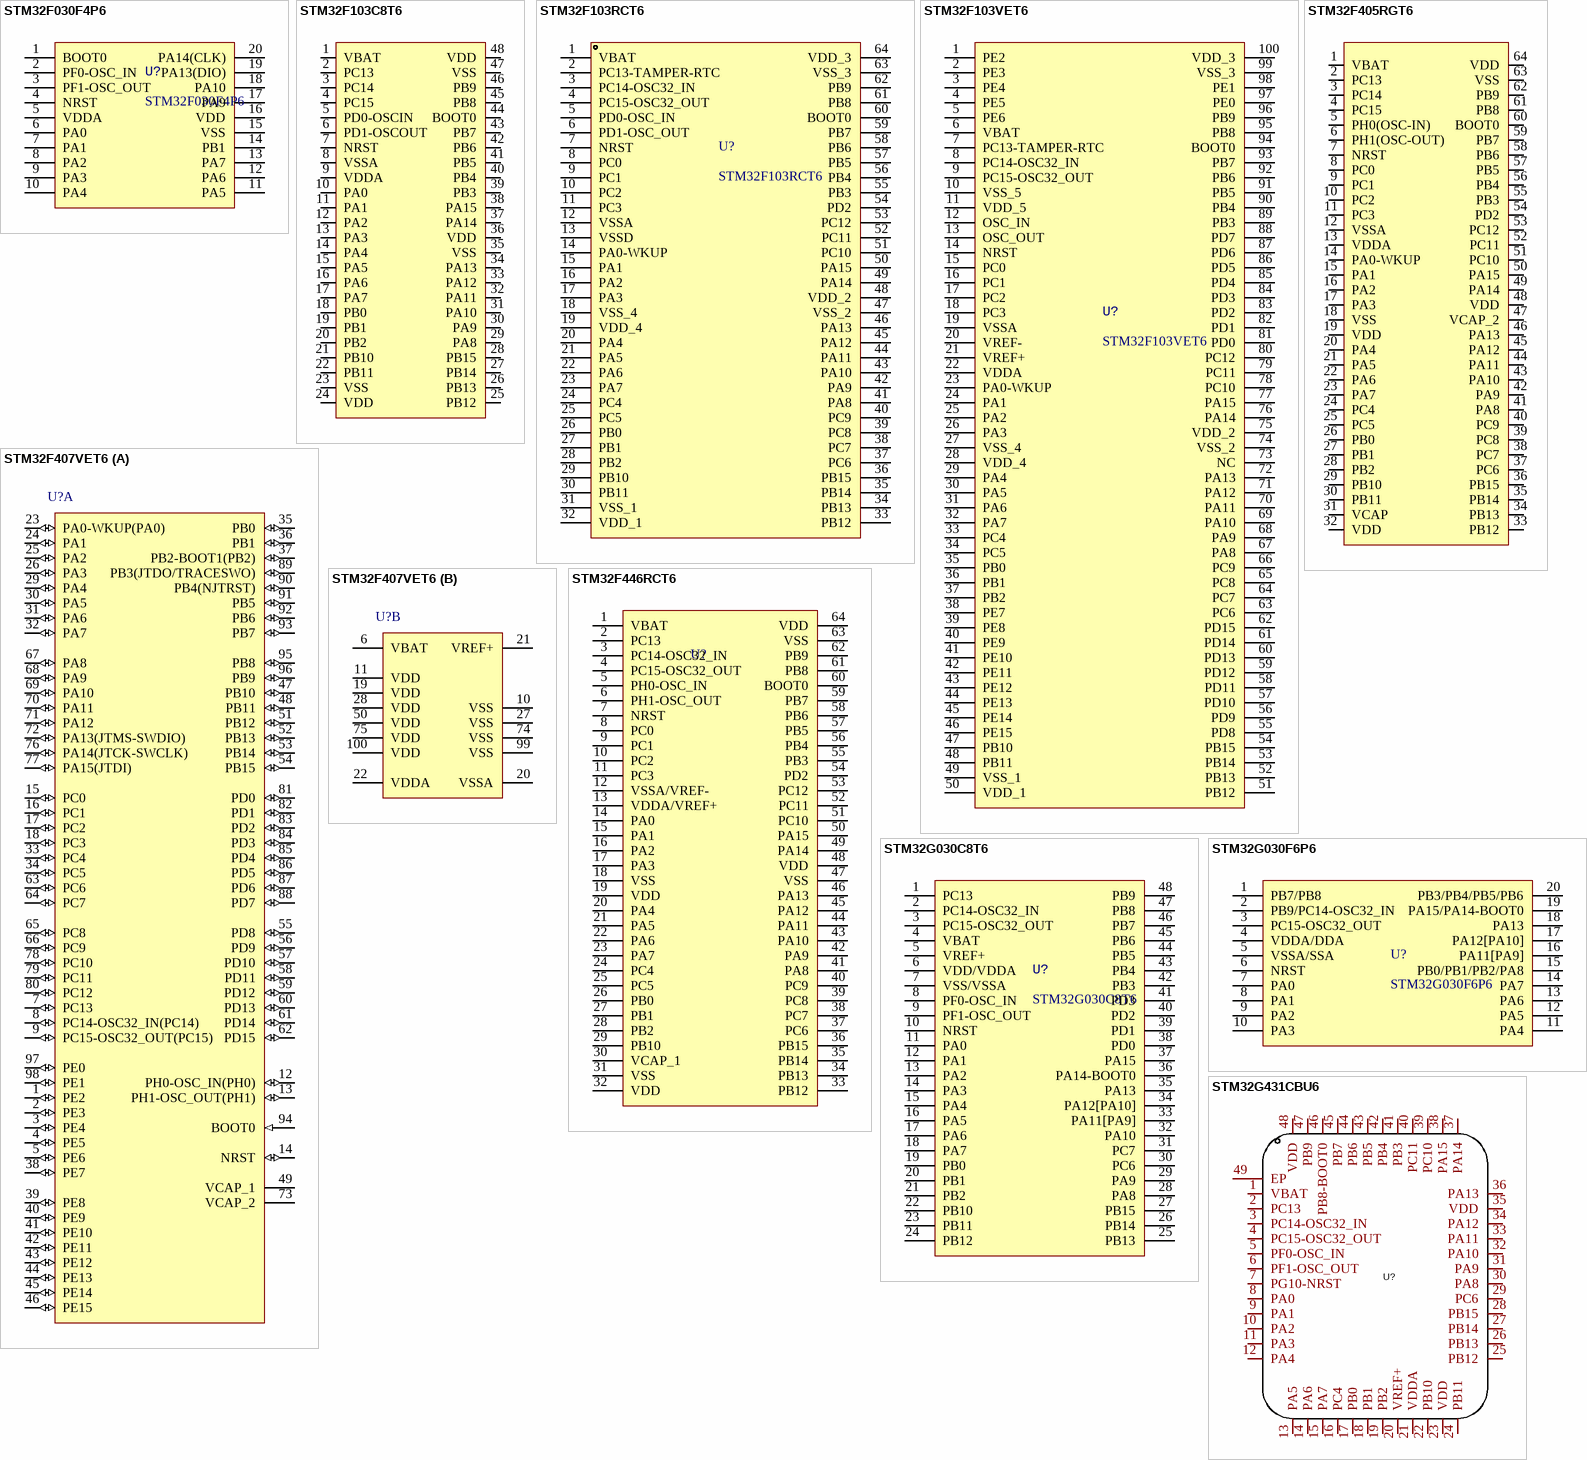
[diagram p2: symbols STM32F030F4P6 to STM32G431CBU6]

## STM32F030F4P6
designator U?
footprint SOP-20_L6.5-W4.4-P0.65-LS6.4-BL
pins: 1 BOOT0, 2 PF0-OSC_IN, 3 PF1-OSC_OUT, 4 NRST, 5 VDDA, 6 PA0, 7 PA1, 8 PA2, 9 PA3, 10 PA4, 11 PA5, 12 PA6, 13 PA7, 14 PB1, 15 VSS, 16 VDD, 17 PA9, 18 PA10, 19 PA13(DIO), 20 PA14(CLK)

## STM32F103C8T6
designator U?  (value not drawn)
Manufacturer: ST(意法半导体); Add into BOM: yes; CPU Core: ARM Cortex-M3; Maximum Frequency: 72MHz; Supply Voltage Range: 2V~3.6V; Internal Oscillator: 有; Program FLASH Size: 64K@x8bit; RAM Size: 20KB; GPIO Ports Number: 37; ADC (Units/Channels/bits): 1@x10ch/12bit; Peripherals / Functions / Protocol Stacks: 温度传感器；DMA；看门狗；POR；PWM; Name: STM32F103C8T6; Symbol: STM32F103C8T6; Device: STM32F103C8T6; LCSC Part Name: STM32F103C8T6 MSL=3; Supplier Part: C8734; Manufacturer Part: STM32F103C8T6; Supplier Footprint: LQFP-48_7x7x05P; JLCPCB Part Class: Basic Part; Datasheet: https://atta.szlcsc.com/upload/public/pdf/source/20140724/1457707174202.pdf; Supplier: LCSC; Convert to PCB: yes; EEPROM/Data FLASH Size: -; Operating Temperature Range: -40℃~+85℃
footprint LQFP-48_L7.0-W7.0-P0.50-LS9.0-BL
pins: 1 VBAT, 2 PC13, 3 PC14, 4 PC15, 5 PD0-OSCIN, 6 PD1-OSCOUT, 7 NRST, 8 VSSA, 9 VDDA, 10 PA0, 11 PA1, 12 PA2, 13 PA3, 14 PA4, 15 PA5, 16 PA6, 17 PA7, 18 PB0, 19 PB1, 20 PB2, 21 PB10, 22 PB11, 23 VSS, 24 VDD, 25 PB12, 26 PB13, 27 PB14, 28 PB15, 29 PA8, 30 PA9, 31 PA10, 32 PA11, 33 PA12, 34 PA13, 35 VSS, 36 VDD, 37 PA14, 38 PA15, 39 PB3, 40 PB4, 41 PB5, 42 PB6, 43 PB7, 44 BOOT0, 45 PB8, 46 PB9, 47 VSS, 48 VDD

## STM32F103RCT6
designator U?
footprint LQFP-64_L10.0-W10.0-P0.50-LS12.0-BL - duplicate
pins: 1 VBAT, 2 PC13-TAMPER-RTC, 3 PC14-OSC32_IN, 4 PC15-OSC32_OUT, 5 PD0-OSC_IN, 6 PD1-OSC_OUT, 7 NRST, 8 PC0, 9 PC1, 10 PC2, 11 PC3, 12 VSSA, 13 VSSD, 14 PA0-WKUP, 15 PA1, 16 PA2, 17 PA3, 18 VSS_4, 19 VDD_4, 20 PA4, 21 PA5, 22 PA6, 23 PA7, 24 PC4, 25 PC5, 26 PB0, 27 PB1, 28 PB2, 29 PB10, 30 PB11, 31 VSS_1, 32 VDD_1, 33 PB12, 34 PB13, 35 PB14, 36 PB15, 37 PC6, 38 PC7, 39 PC8, 40 PC9, 41 PA8, 42 PA9, 43 PA10, 44 PA11, 45 PA12, 46 PA13, 47 VSS_2, 48 VDD_2, 49 PA14, 50 PA15, 51 PC10, 52 PC11, 53 PC12, 54 PD2, 55 PB3, 56 PB4, 57 PB5, 58 PB6, 59 PB7, 60 BOOT0, 61 PB8, 62 PB9, 63 VSS_3, 64 VDD_3

## STM32F103VET6
designator U?
footprint LQFP-100_L14.0-W14.0-P0.50-LS16.0-BL
pins: 1 PE2, 2 PE3, 3 PE4, 4 PE5, 5 PE6, 6 VBAT, 7 PC13-TAMPER-RTC, 8 PC14-OSC32_IN, 9 PC15-OSC32_OUT, 10 VSS_5, 11 VDD_5, 12 OSC_IN, 13 OSC_OUT, 14 NRST, 15 PC0, 16 PC1, 17 PC2, 18 PC3, 19 VSSA, 20 VREF-, 21 VREF+, 22 VDDA, 23 PA0-WKUP, 24 PA1, 25 PA2, 26 PA3, 27 VSS_4, 28 VDD_4, 29 PA4, 30 PA5, 31 PA6, 32 PA7, 33 PC4, 34 PC5, 35 PB0, 36 PB1, 37 PB2, 38 PE7, 39 PE8, 40 PE9, 41 PE10, 42 PE11, 43 PE12, 44 PE13, 45 PE14, 46 PE15, 47 PB10, 48 PB11, 49 VSS_1, 50 VDD_1, 51 PB12, 52 PB13, 53 PB14, 54 PB15, 55 PD8, 56 PD9, 57 PD10, 58 PD11, 59 PD12, 60 PD13, 61 PD14, 62 PD15, 63 PC6, 64 PC7, 65 PC8, 66 PC9, 67 PA8, 68 PA9, 69 PA10, 70 PA11, 71 PA12, 72 PA13, 73 NC, 74 VSS_2, 75 VDD_2, 76 PA14, 77 PA15, 78 PC10, 79 PC11, 80 PC12, 81 PD0, 82 PD1, 83 PD2, 84 PD3, 85 PD4, 86 PD5, 87 PD6, 88 PD7, 89 PB3, 90 PB4, 91 PB5, 92 PB6, 93 PB7, 94 BOOT0, 95 PB8, 96 PB9, 97 PE0, 98 PE1, 99 VSS_3, 100 VDD_3

## STM32F405RGT6
designator U?  (value not drawn)
Manufacturer: ST(意法半导体); Add into BOM: yes; Speed: 168MHz; Voltage - Supply (Vcc/Vdd): 1.8V ~ 3.6V; Program Memory Size: 1MB; RAM Size: 192KB; Number of I/O: 51; A/D: 16x12bit; D/A: 2x12bit; PWM: 56; LCD: MOTOROLA 6800 AND INTEL  8080 TYPE LCD DIRECTLY; UART/USART: 4 USART+2 UART; SPI: 3; USB Device: 1; CAN: 2; Name: STM32F405RGT6; Symbol: STM32F405RGT6; Device: STM32F405RGT6; LCSC Part Name: STM32F405RGT6; Supplier Part: C15742; Manufacturer Part: STM32F405RGT6; Supplier Footprint: LQFP-64_10x10x05P; JLCPCB Part Class: Extended Part; Datasheet: https://atta.szlcsc.com/upload/public/pdf/source/20140724/1457707160365.pdf; Supplier: LCSC; Convert to PCB: yes; I2C（SMBUS/PMBUS）: 3; USB Host/OTG: 1
footprint LQFP-64_L10.0-W10.0-P0.50-LS12.0-BL - duplicate
pins: 1 VBAT, 2 PC13, 3 PC14, 4 PC15, 5 PH0(OSC-IN), 6 PH1(OSC-OUT), 7 NRST, 8 PC0, 9 PC1, 10 PC2, 11 PC3, 12 VSSA, 13 VDDA, 14 PA0-WKUP, 15 PA1, 16 PA2, 17 PA3, 18 VSS, 19 VDD, 20 PA4, 21 PA5, 22 PA6, 23 PA7, 24 PC4, 25 PC5, 26 PB0, 27 PB1, 28 PB2, 29 PB10, 30 PB11, 31 VCAP, 32 VDD, 33 PB12, 34 PB13, 35 PB14, 36 PB15, 37 PC6, 38 PC7, 39 PC8, 40 PC9, 41 PA8, 42 PA9, 43 PA10, 44 PA11, 45 PA12, 46 PA13, 47 VCAP_2, 48 VDD, 49 PA14, 50 PA15, 51 PC10, 52 PC11, 53 PC12, 54 PD2, 55 PB3, 56 PB4, 57 PB5, 58 PB6, 59 PB7, 60 BOOT0, 61 PB8, 62 PB9, 63 VSS, 64 VDD

## STM32F407VET6
designator U?
ARM Cortex-M4 32-bit MCU+FPU, 210 DMIPS, 512 kB Flash, 192 kB Internal RAM, 82 I/Os, 100-pin LQFP, -40 to 85 degC, Tray; Manufacturer: STMicroelectronics; PartNumber: STM32F407VET6; D/A Converter: 2x12-bit; FLASH Size (Prog) (kB): 512; I/Os (High Current): 82; Internal RAM Size (kB): 192; Operating Frequency(F) (Processor speed) (MHz): 168; Supply Voltage(Vcc) max (V): 3.6; Supply Voltage(Vcc) min (V): 1.8; DatasheetVersion: Rev. 4; PackageVersion: Rev. 1, 06/2013; PackageReference: LQFP100; PackageDescription: 100-Pin Low Profile Quad Flat Package, 14 x 14 mm Body, 0.5 mm Pitch; Supplier 1: Digi-Key; Supplier Part Number 1: 497-12075-ND; Supplier 2: Farnell; Supplier Part Number 2: 2064367; Supplier 3: Newark; Supplier Part Number 3: 73T2332; Supplier 4: Mouser; Supplier Part Number 4: 511-STM32F407VET6; Core: ARM Cortex-M4; Packing: Tray; Mounting Technology: Surface Mount; ComponentLink1Description: Manufacturer URL; ComponentLink1URL: http://www.st.com/web/en/home.html; ComponentLink2Description: Datasheet; ComponentLink2URL: http://www.st.com/st-web-ui/static/active/en/resource/technical/document/datasheet/DM00037051.pdf; ComponentLink3Description: Package Specification; ComponentLink3URL: http://www.st.com/st-web-ui/static/active/en/resource/technical/document/data_brief/DM00071938.pdf
footprint LQFP-100_L14.0-W14.0-P0.50-LS16.0-BL
part A pins: 1 PE2 (io) "PE2/TRACECLK/FSMC_A23/ETH_MII_TXD3/EVENTOUT", 2 PE3 (io) "PE3/TRACED0/FSMC_A19/EVENTOUT", 3 PE4 (io) "PE4/TRACED1/FSMC_A20/DCMI_D4/EVENTOUT", 4 PE5 (io) "PE5/TRACED2/FSMC_A21/TIM9_CH1/DCMI_D6/EVENTOUT", 5 PE6 (io) "PE6/TRACED3/FSMC_A22/TIM9_CH2/DCMI_D7/EVENTOUT", 7 PC13 (io) "PC13/EVENTOUT/RTC_OUT,RTC_TAMP1,RTC_TS", 8 PC14-OSC32_IN(PC14) (io) "PC14-OSC32_IN(PC14)/EVENTOUT/OSC32_IN", 9 PC15-OSC32_OUT(PC15) (io) "PC15-OSC32_OUT(PC15)/EVENTOUT/OSC32_OUT", 12 PH0-OSC_IN(PH0) (io) "PH0-OSC_IN(PH0)/EVENTOUT/OSC_IN", 13 PH1-OSC_OUT(PH1) (io) "PH1-OSC_OUT(PH1)/EVENTOUT/OSC_OUT", 14 NRST (io), 15 PC0 (io) "PC0/OTG_HS_ULPI_STP/EVENTOUT/ADC123_IN10", 16 PC1 (io) "PC1/ETH_MDC/EVENTOUT/ADC123_IN11", 17 PC2 (io) "PC2/SPI2_MISO/OTG_HS_ULPI_DIR/ETH_MII_TXD2/I2S2ext_SD/EVENTOUT/ADC123_IN12", 18 PC3 (io) "PC3/SPI2_MOSI/I2S2_SD/OTG_HS_ULPI_NXT/ETH_MII_TX_CLK/EVENTOUT/ADC123_IN13", 23 PA0-WKUP(PA0) (io) "PA0-WKUP(PA0)/USART2_CTS/UART4_TX/ETH_MII_CRS/TIM2_CH1_ETR/TIM5_CH1/TIM8_ETR/EVENTOUT/ADC123_IN0/WKUP", 24 PA1 (io) "PA1/USART2_RTS/UART4_RX/ETH_RMII_REF_CLK/ETH_MII_RX_CLK/TIM5_CH2/TIM2_CH2/EVENTOUT/ADC123_IN1", 25 PA2 (io) "PA2/USART2_TX/TIM5_CH3/TIM9_CH1/TIM2_CH3/ETH_MDIO/EVENTOUT/ADC123_IN2", 26 PA3 (io) "PA3/USART2_RX/TIM5_CH4/TIM9_CH2/TIM2_CH4/OTG_HS_ULPI_D0/ETH_MII_COL/EVENTOUT/ADC123_IN3", 29 PA4 (io) "PA4/SPI1_NSS/SPI3_NSS/USART2_CK/DCMI_HSYNC/OTG_HS_SOF/I2S3_WS/EVENTOUT/ADC12_IN4/DAC_OUT1", 30 PA5 (io) "PA5/SPI1_SCK/OTG_HS_ULPI_CK/TIM2_CH1_ETR/TIM8_CH1N/EVENTOUT/ADC12_IN5/DAC_OUT2", 31 PA6 (io) "PA6/SPI1_MISO/TIM8_BKIN/TIM13_CH1/DCMI_PIXCLK/TIM3_CH1/TIM1_BKIN/EVENTOUT/ADC12_IN6", 32 PA7 (io) "PA7/SPI1_MOSI/TIM8_CH1N/TIM14_CH1/TIM3_CH2/ETH_MII_RX_DV/TIM1_CH1N/ETH_RMII_CRS_DV/EVENTOUT/ADC12_IN7", 33 PC4 (io) "PC4/ETH_RMII_RX_D0/ETH_MII_RX_D0/EVENTOUT/ADC12_IN14", 34 PC5 (io) "PC5/ETH_RMII_RX_D1/ETH_MII_RX_D1/EVENTOUT/ADC12_IN15", 35 PB0 (io) "PB0/TIM3_CH3/TIM8_CH2N/OTG_HS_ULPI_D1/ETH_MII_RXD2/TIM1_CH2N/EVENTOUT/ADC12_IN8", 36 PB1 (io) "PB1/TIM3_CH4/TIM8_CH3N/OTG_HS_ULPI_D2/ETH_MII_RXD3/TIM1_CH3N/EVENTOUT/ADC12_IN9", 37 PB2-BOOT1(PB2) (io) "PB2-BOOT1(PB2)/EVENTOUT", 38 PE7 (io) "PE7/FSMC_D4/TIM1_ETR/EVENTOUT", 39 PE8 (io) "PE8/FSMC_D5/TIM1_CH1N/EVENTOUT", 40 PE9 (io) "PE9/FSMC_D6/TIM1_CH1/EVENTOUT", 41 PE10 (io) "PE10/FSMC_D7/TIM1_CH2N/EVENTOUT", 42 PE11 (io) "PE11/FSMC_D8/TIM1_CH2/EVENTOUT", 43 PE12 (io) "PE12/FSMC_D9/TIM1_CH3N/EVENTOUT", 44 PE13 (io) "PE13/FSMC_D10/TIM1_CH3/EVENTOUT", 45 PE14 (io) "PE14/FSMC_D11/TIM1_CH4/EVENTOUT", 46 PE15 (io) "PE15/FSMC_D12/TIM1_BKIN/EVENTOUT", 47 PB10 (io) "PB10/SPI2_SCK/I2S2_CK/I2C2_SCL/USART3_TX/OTG_HS_ULPI_D3/ETH_MII_RX_ER/TIM2_CH3/EVENTOUT", 48 PB11 (io) "PB11/I2C2_SDA/USART3_RX/OTG_HS_ULPI_D4/ETH_RMII_TX_EN/ETH_MII_TX_EN/TIM2_CH4/EVENTOUT", 49 VCAP_1 (power), 51 PB12 (io) "PB12/SPI2_NSS/I2S2_WS/I2C2_SMBA/USART3_CK/TIM1_BKIN/CAN2_RX/OTG_HS_ULPI_D5/ETH_RMII_TXD0/ETH_MII_TXD0/OTG_HS_ID/EVENTOUT", 52 PB13 (io) "PB13/SPI2_SCK/I2S2_CK/USART3_CTS/TIM1_CH1N/CAN2_TX/OTG_HS_ULPI_D6/ETH_RMII_TXD1/ETH_MII_TXD1/EVENTOUT/OTG_HS_VBUS", 53 PB14 (io) "PB14/SPI2_MISO/TIM1_CH2N/TIM12_CH1/OTG_HS_DM/USART3_RTS/TIM8_CH2N/I2S2ext_SD/EVENTOUT", 54 PB15 (io) "PB15/SPI2_MOSI/I2S2_SD/TIM1_CH3N/TIM8_CH3N/TIM12_CH2/OTG_HS_DP/EVENTOUT/RTC_REFIN", 55 PD8 (io) "PD8/FSMC_D13/USART3_TX/EVENTOUT", 56 PD9 (io) "PD9/FSMC_D14/USART3_RX/EVENTOUT", 57 PD10 (io) "PD10/FSMC_D15/USART3_CK/EVENTOUT", 58 PD11 (io) "PD11/FSMC_CLE/FSMC_A16/USART3_CTS/EVENTOUT", 59 PD12 (io) "PD12/FSMC_ALE/FSMC_A17/TIM4_CH1/USART3_RTS/EVENTOUT", 60 PD13 (io) "PD13/FSMC_A18/TIM4_CH2/EVENTOUT", 61 PD14 (io) "PD14/FSMC_D0/TIM4_CH3/EVENTOUT", 62 PD15 (io) "PD15/FSMC_D1/TIM4_CH4/EVENTOUT", 63 PC6 (io) "PC6/I2S2_MCK/TIM8_CH1/SDIO_D6/USART6_TX/DCMI_D0/TIM3_CH1/EVENTOUT", 64 PC7 (io) "PC7/I2S3_MCK/TIM8_CH2/SDIO_D7/USART6_RX/DCMI_D1/TIM3_CH2/EVENTOUT", 65 PC8 (io) "PC8/TIM8_CH3/SDIO_D0/TIM3_CH3/USART6_CK/DCMI_D2/EVENTOUT", 66 PC9 (io) "PC9/I2S_CKIN/MCO2/TIM8_CH4/SDIO_D1/I2C3_SDA/DCMI_D3/TIM3_CH4/EVENTOUT", 67 PA8 (io) "PA8/MCO1/USART1_CK/TIM1_CH1/I2C3_SCL/OTG_FS_SOF/EVENTOUT", 68 PA9 (io) "PA9/USART1_TX/TIM1_CH2/I2C3_SMBA/DCMI_D0/EVENTOUT/OTG_FS_VBUS", 69 PA10 (io) "PA10/USART1_RX/TIM1_CH3/OTG_FS_ID/DCMI_D1/EVENTOUT", 70 PA11 (io) "PA11/USART1_CTS/CAN1_RX/TIM1_CH4/OTG_FS_DM/EVENTOUT", 71 PA12 (io) "PA12/USART1_RTS/CAN1_TX/TIM1_ETR/OTG_FS_DP/EVENTOUT", 72 PA13(JTMS-SWDIO) (io) "PA13(JTMS-SWDIO)/JTMS-SWDIO/EVENTOUT", 73 VCAP_2 (power), 76 PA14(JTCK-SWCLK) (io) "PA14(JTCK-SWCLK)/JTCK-SWCLK/EVENTOUT", 77 PA15(JTDI) (io) "PA15(JTDI)/JTDI/SPI3_NSS/I2S3_WS/TIM2_CH1_ETR/SPI1_NSS/EVENTOUT", 78 PC10 (io) "PC10/SPI3_SCK/I2S3_CK/UART4_TX/SDIO_D2/DCMI_D8/USART3_TX/EVENTOUT", 79 PC11 (io) "PC11/UART4_RX/SPI3_MISO/SDIO_D3/DCMI_D4/USART3_RX/I2S3ext_SD/EVENTOUT", 80 PC12 (io) "PC12/UART5_TX/SDIO_CK/DCMI_D9/SPI3_MOSI/I2S3_SD/USART3_CK/EVENTOUT", 81 PD0 (io) "PD0/FSMC_D2/CAN1_RX/EVENTOUT", 82 PD1 (io) "PD1/FSMC_D3/CAN1_TX/EVENTOUT", 83 PD2 (io) "PD2/TIM3_ETR/UART5_RX/SDIO_CMD/DCMI_D11/EVENTOUT", 84 PD3 (io) "PD3/FSMC_CLK/USART2_CTS/EVENTOUT", 85 PD4 (io) "PD4/FSMC_NOE/USART2_RTS/EVENTOUT", 86 PD5 (io) "PD5/FSMC_NWE/USART2_TX/EVENTOUT", 87 PD6 (io) "PD6/FSMC_NWAIT/USART2_RX/EVENTOUT", 88 PD7 (io) "PD7/USART2_CK/FSMC_NE1/FSMC_NCE2/EVENTOUT", 89 PB3(JTDO/TRACESWO) (io) "PB3(JTDO/TRACESWO)/JTDO/TRACESWO/SPI3_SCK/I2S3_CK/TIM2_CH2/SPI1_SCK/EVENTOUT", 90 PB4(NJTRST) (io) "PB4(NJTRST)/NJTRST/SPI3_MISO/TIM3_CH1/SPI1_MISO/I2S3ext_SD/EVENTOUT", 91 PB5 (io) "PB5/I2C1_SMBA/CAN2_RX/OTG_HS_ULPI_D7/ETH_PPS_OUT/TIM3_CH2/SPI1_MOSI/SPI3_MOSI/DCMI_D10/I2S3_SD/EVENTOUT", 92 PB6 (io) "PB6/I2C1_SCL/TIM4_CH1/CAN2_TX/DCMI_D5/USART1_TX/EVENTOUT", 93 PB7 (io) "PB7/I2C1_SDA/FSMC_NL/DCMI_VSYNC/USART1_RX/TIM4_CH2/EVENTOUT", 94 BOOT0 (in) "BOOT0/VPP", 95 PB8 (io) "PB8/TIM4_CH3/SDIO_D4/TIM10_CH1/DCMI_D6/ETH_MII_TXD3/I2C1_SCL/CAN1_RX/EVENTOUT", 96 PB9 (io) "PB9/SPI2_NSS/I2S2_WS/TIM4_CH4/TIM11_CH1/SDIO_D5/DCMI_D7/I2C1_SDA/CAN1_TX/EVENTOUT", 97 PE0 (io) "PE0/TIM4_ETR/FSMC_NBL0/DCMI_D2/EVENTOUT", 98 PE1 (io) "PE1/FSMC_NBL1/DCMI_D3/EVENTOUT"
part B pins: 6 VBAT (power), 10 VSS (power), 11 VDD (power), 19 VDD (power), 20 VSSA (power), 21 VREF+ (power), 22 VDDA (power), 27 VSS (power), 28 VDD (power), 50 VDD (power), 74 VSS (power), 75 VDD (power), 99 VSS (power), 100 VDD (power)

## STM32F446RCT6
designator U?  (value not drawn)
footprint LQFP-64_L10.0-W10.0-P0.50-LS12.0-BL - duplicate
pins: 1 VBAT, 2 PC13, 3 PC14-OSC32_IN, 4 PC15-OSC32_OUT, 5 PH0-OSC_IN, 6 PH1-OSC_OUT, 7 NRST, 8 PC0, 9 PC1, 10 PC2, 11 PC3, 12 VSSA/VREF-, 13 VDDA/VREF+, 14 PA0, 15 PA1, 16 PA2, 17 PA3, 18 VSS, 19 VDD, 20 PA4, 21 PA5, 22 PA6, 23 PA7, 24 PC4, 25 PC5, 26 PB0, 27 PB1, 28 PB2, 29 PB10, 30 VCAP_1, 31 VSS, 32 VDD, 33 PB12, 34 PB13, 35 PB14, 36 PB15, 37 PC6, 38 PC7, 39 PC8, 40 PC9, 41 PA8, 42 PA9, 43 PA10, 44 PA11, 45 PA12, 46 PA13, 47 VSS, 48 VDD, 49 PA14, 50 PA15, 51 PC10, 52 PC11, 53 PC12, 54 PD2, 55 PB3, 56 PB4, 57 PB5, 58 PB6, 59 PB7, 60 BOOT0, 61 PB8, 62 PB9, 63 VSS, 64 VDD

## STM32G030C8T6
designator U?
footprint LQFP-48_L7.0-W7.0-P0.50-LS9.0-BL
pins: 1 PC13, 2 PC14-OSC32_IN, 3 PC15-OSC32_OUT, 4 VBAT, 5 VREF+, 6 VDD/VDDA, 7 VSS/VSSA, 8 PF0-OSC_IN, 9 PF1-OSC_OUT, 10 NRST, 11 PA0, 12 PA1, 13 PA2, 14 PA3, 15 PA4, 16 PA5, 17 PA6, 18 PA7, 19 PB0, 20 PB1, 21 PB2, 22 PB10, 23 PB11, 24 PB12, 25 PB13, 26 PB14, 27 PB15, 28 PA8, 29 PA9, 30 PC6, 31 PC7, 32 PA10, 33 PA11[PA9], 34 PA12[PA10], 35 PA13, 36 PA14-BOOT0, 37 PA15, 38 PD0, 39 PD1, 40 PD2, 41 PD3, 42 PB3, 43 PB4, 44 PB5, 45 PB6, 46 PB7, 47 PB8, 48 PB9

## STM32G030F6P6
designator U?
footprint SOP-20_L6.5-W4.4-P0.65-LS6.4-BL
pins: 1 PB7/PB8, 2 PB9/PC14-OSC32_IN, 3 PC15-OSC32_OUT, 4 VDDA/DDA, 5 VSSA/SSA, 6 NRST, 7 PA0, 8 PA1, 9 PA2, 10 PA3, 11 PA4, 12 PA5, 13 PA6, 14 PA7, 15 PB0/PB1/PB2/PA8, 16 PA11[PA9], 17 PA12[PA10], 18 PA13, 19 PA15/PA14-BOOT0, 20 PB3/PB4/PB5/PB6

## STM32G431CBU6
designator U?  (value not drawn)
Manufacturer: ST(意法半导体); Add into BOM: yes; CPU Core: ARM Cortex-M4; Maximum Frequency: 170MHz; Supply Voltage Range: 1.71V~3.6V; Internal Oscillator: 有; Program FLASH Size: 128K@x8bit; RAM Size: 32KB; GPIO Ports Number: 42; ADC (Units/Channels/bits): 1@x18ch/12bit; DAC (Units/Channels/bits): 1@x4ch/12bit; Peripherals / Functions / Protocol Stacks: 欠压检测/复位；DMA；看门狗；POR；PWM; Name: STM32G431CBU6; Symbol: STM32G431CBU6; Device: STM32G431CBU6; LCSC Part Name: ARM Cortex-M4 170MHz 闪存：128K@x8bit RAM：32KB; Supplier Part: C529356; Manufacturer Part: STM32G431CBU6; Supplier Footprint: UFQFPN-48; JLCPCB Part Class: Extended Part; Datasheet: https://atta.szlcsc.com/upload/public/pdf/source/20200511/C529354_7C66CF00837B904D0C15DCE45B69418C.pdf; Supplier: LCSC; Convert to PCB: yes; EEPROM/Data FLASH Size: -; Operating Temperature Range: -40℃~+85℃
footprint UFQFPN-48_L7.0-W7.0-P0.50-BL-EP
pins: 1 VBAT, 2 PC13, 3 PC14-OSC32_IN, 4 PC15-OSC32_OUT, 5 PF0-OSC_IN, 6 PF1-OSC_OUT, 7 PG10-NRST, 8 PA0, 9 PA1, 10 PA2, 11 PA3, 12 PA4, 13 PA5, 14 PA6, 15 PA7, 16 PC4, 17 PB0, 18 PB1, 19 PB2, 20 VREF+, 21 VDDA, 22 PB10, 23 VDD, 24 PB11, 25 PB12, 26 PB13, 27 PB14, 28 PB15, 29 PC6, 30 PA8, 31 PA9, 32 PA10, 33 PA11, 34 PA12, 35 VDD, 36 PA13, 37 PA14, 38 PA15, 39 PC10, 40 PC11, 41 PB3, 42 PB4, 43 PB5, 44 PB6, 45 PB7, 46 PB8-BOOT0, 47 PB9, 48 VDD, 49 EP

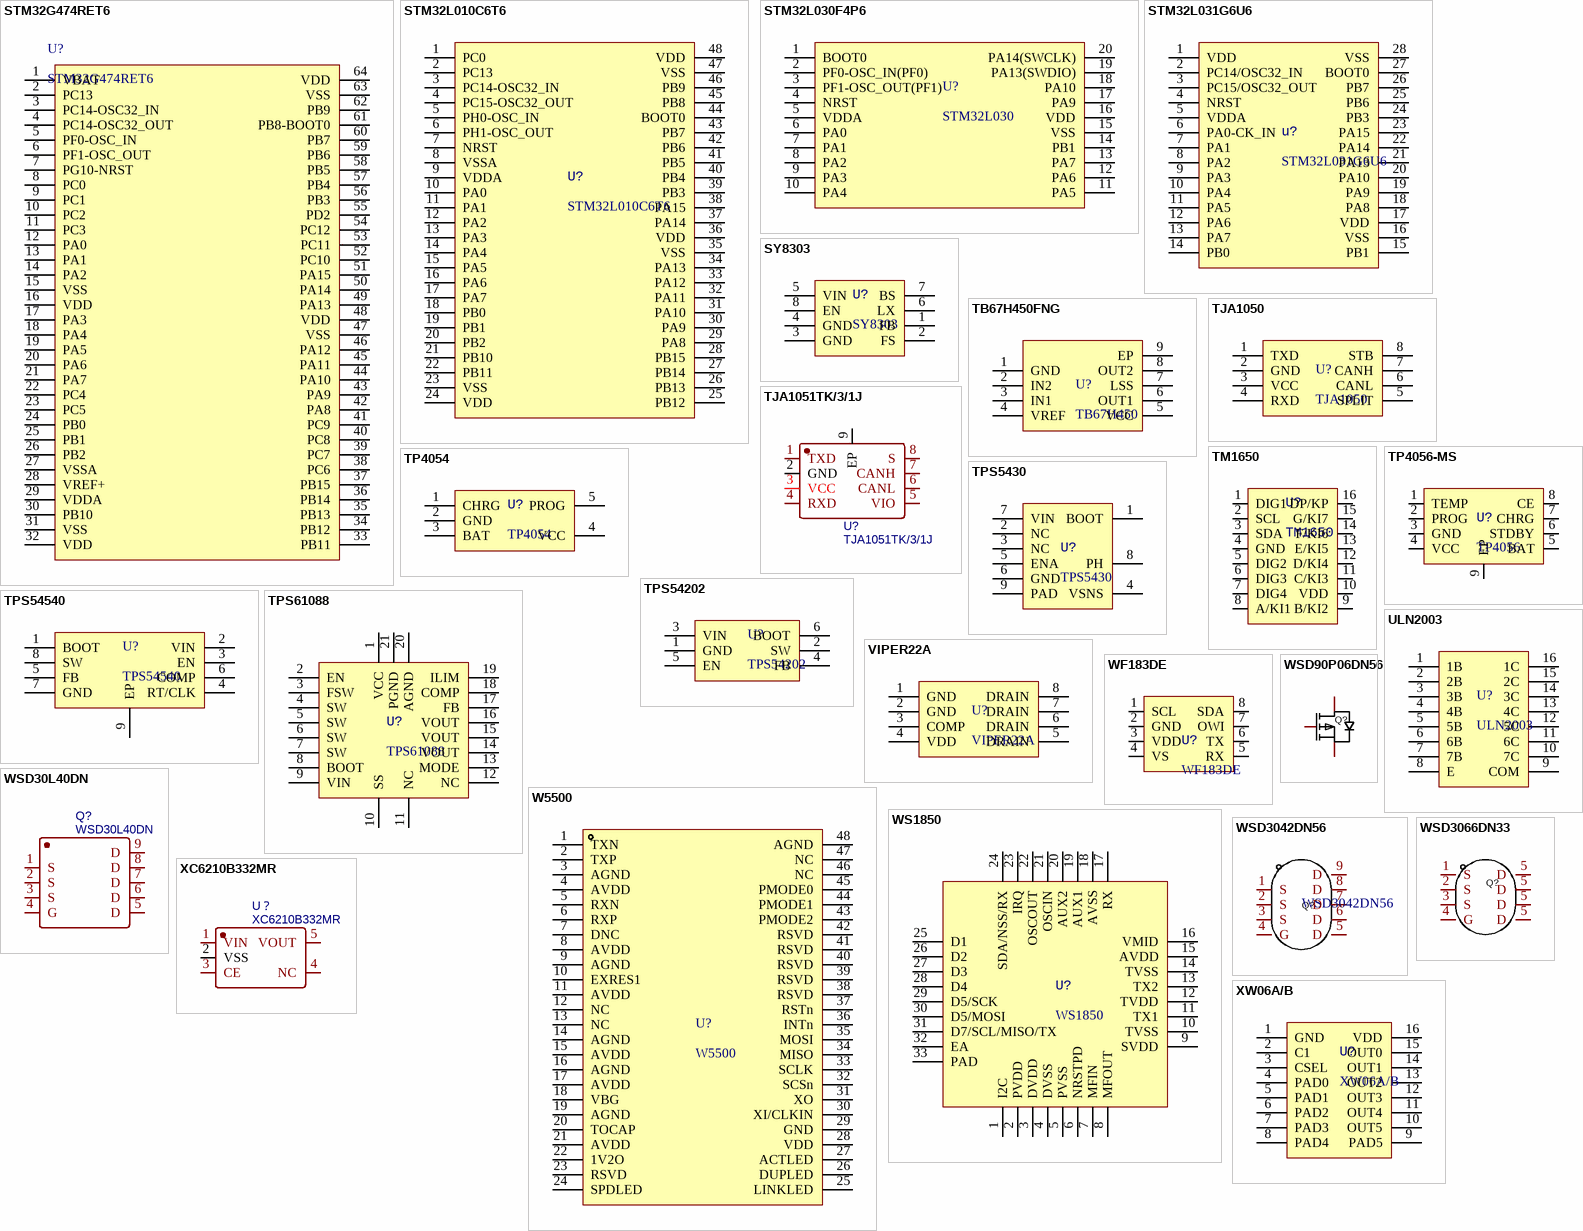
[diagram p3: symbols STM32G474RET6 to XW06A/B]

## STM32G474RET6
designator U?
footprint LQFP-64_L10.0-W10.0-P0.50-LS12.0-BL - duplicate
pins: 1 VBAT, 2 PC13, 3 PC14-OSC32_IN, 4 PC14-OSC32_OUT, 5 PF0-OSC_IN, 6 PF1-OSC_OUT, 7 PG10-NRST, 8 PC0, 9 PC1, 10 PC2, 11 PC3, 12 PA0, 13 PA1, 14 PA2, 15 VSS, 16 VDD, 17 PA3, 18 PA4, 19 PA5, 20 PA6, 21 PA7, 22 PC4, 23 PC5, 24 PB0, 25 PB1, 26 PB2, 27 VSSA, 28 VREF+, 29 VDDA, 30 PB10, 31 VSS, 32 VDD, 33 PB11, 34 PB12, 35 PB13, 36 PB14, 37 PB15, 38 PC6, 39 PC7, 40 PC8, 41 PC9, 42 PA8, 43 PA9, 44 PA10, 45 PA11, 46 PA12, 47 VSS, 48 VDD, 49 PA13, 50 PA14, 51 PA15, 52 PC10, 53 PC11, 54 PC12, 55 PD2, 56 PB3, 57 PB4, 58 PB5, 59 PB6, 60 PB7, 61 PB8-BOOT0, 62 PB9, 63 VSS, 64 VDD

## STM32L010C6T6
designator U?
footprint LQFP-48_L7.0-W7.0-P0.50-LS9.0-BL
pins: 1 PC0, 2 PC13, 3 PC14-OSC32_IN, 4 PC15-OSC32_OUT, 5 PH0-OSC_IN, 6 PH1-OSC_OUT, 7 NRST, 8 VSSA, 9 VDDA, 10 PA0, 11 PA1, 12 PA2, 13 PA3, 14 PA4, 15 PA5, 16 PA6, 17 PA7, 18 PB0, 19 PB1, 20 PB2, 21 PB10, 22 PB11, 23 VSS, 24 VDD, 25 PB12, 26 PB13, 27 PB14, 28 PB15, 29 PA8, 30 PA9, 31 PA10, 32 PA11, 33 PA12, 34 PA13, 35 VSS, 36 VDD, 37 PA14, 38 PA15, 39 PB3, 40 PB4, 41 PB5, 42 PB6, 43 PB7, 44 BOOT0, 45 PB8, 46 PB9, 47 VSS, 48 VDD

## STM32L030F4P6
designator U?, comment STM32L030
footprint SOP-20_L6.5-W4.4-P0.65-LS6.4-BL
pins: 1 BOOT0, 2 PF0-OSC_IN(PF0), 3 PF1-OSC_OUT(PF1), 4 NRST, 5 VDDA, 6 PA0, 7 PA1, 8 PA2, 9 PA3, 10 PA4, 11 PA5, 12 PA6, 13 PA7, 14 PB1, 15 VSS, 16 VDD, 17 PA9, 18 PA10, 19 PA13(SWDIO), 20 PA14(SWCLK)

## STM32L031G6U6
designator u?
footprint UFQFPN-28_L4.0-W4.0-P0.50-BL
pins: 1 VDD, 2 PC14/OSC32_IN, 3 PC15/OSC32_OUT, 4 NRST, 5 VDDA, 6 PA0-CK_IN, 7 PA1, 8 PA2, 9 PA3, 10 PA4, 11 PA5, 12 PA6, 13 PA7, 14 PB0, 15 PB1, 16 VSS, 17 VDD, 18 PA8, 19 PA9, 20 PA10, 21 PA13, 22 PA14, 23 PA15, 24 PB3, 25 PB6, 26 PB7, 27 BOOT0, 28 VSS

## SY8303
designator U?
footprint TSOT-23-8_L2.9-W1.6-P0.65-LS2.8-BR
pins: 1 FB, 2 FS, 3 GND, 4 GND, 5 VIN, 6 LX, 7 BS, 8 EN

## TB67H450FNG
designator U?, comment TB67H450
footprint HSOP-8_L5.0-W4.0-P1.27-LS6.2-BL-EP
pins: 1 GND, 2 IN2, 3 IN1, 4 VREF, 5 VCC, 6 OUT1, 7 LSS, 8 OUT2, 9 EP

## TJA1050
designator U?
footprint SOP-8_L4.9-W3.9-P1.27-LS6.0-BL
pins: 1 TXD, 2 GND, 3 VCC, 4 RXD, 5 SPLIT, 6 CANL, 7 CANH, 8 STB

## TJA1051TK/3/1J
designator U?
BOM_Manufacturer: NXP(恩智浦); Contributor: LCSC; BOM_Supplier: LCSC; BOM_Supplier Part: C2875699; BOM_Manufacturer Part: TJA1051TK/3/1J; BOM_JLCPCB Part Class: Extended Part; spicePre: U; spiceSymbolName: TJA1051TK/3/1J
footprint HVSON-8_L3.0-W3.0-P0.65-BL-EP
pins: 1 TXD, 2 GND, 3 VCC, 4 RXD, 5 VIO, 6 CANL, 7 CANH, 8 S, 9 EP

## TM1650
designator U?
footprint SOP-16_L10.0-W3.9-P1.27-LS6.0-BL
pins: 1 DIG1, 2 SCL, 3 SDA, 4 GND, 5 DIG2, 6 DIG3, 7 DIG4, 8 A/KI1, 9 B/KI2, 10 VDD, 11 C/KI3, 12 D/KI4, 13 E/KI5, 14 F/KI6, 15 G/KI7, 16 DP/KP

## TP4054
designator U?
footprint SOT-25_L3.0-W1.6-P0.95-LS2.8-BL
pins: 1 CHRG, 2 GND, 3 BAT, 4 VCC, 5 PROG

## TP4056-MS
designator U?, comment TP4056
footprint ESOP-8_L4.9-W3.9-P1.27-LS6.0-BL-EP
pins: 1 TEMP, 2 PROG, 3 GND, 4 VCC, 5 BAT, 6 STDBY, 7 CHRG, 8 CE, 9 EP

## TPS5430
designator U?
footprint SOIC-8_L4.9-W3.9-P1.27-LS6.0-BL-EP
pins: 1 BOOT, 2 NC, 3 NC, 4 VSNS, 5 ENA, 6 GND, 7 VIN, 8 PH, 9 PAD

## TPS54202
designator U?
footprint SOT-23-6_L2.9-W1.6-P0.95-LS2.8-TL
pins: 1 GND, 2 SW, 3 VIN, 4 FB, 5 EN, 6 BOOT

## TPS54540
designator U?
footprint SOIC-8_L4.9-W3.9-P1.27-LS6.0-BL-EP
pins: 1 BOOT, 2 VIN, 3 EN, 4 RT/CLK, 5 FB, 6 COMP, 7 GND, 8 SW, 9 EP

## TPS61088
designator U?
footprint VQFN-20_L4.6-W3.6-P0.50-BL
pins: 1 VCC, 2 EN, 3 FSW, 4 SW, 5 SW, 6 SW, 7 SW, 8 BOOT, 9 VIN, 10 SS, 11 NC, 12 NC, 13 MODE, 14 VOUT, 15 VOUT, 16 VOUT, 17 FB, 18 COMP, 19 ILIM, 20 AGND, 21 PGND

## ULN2003
designator U?
footprint SOIC-16_L9.9-W3.9-P1.27-LS6.0-BL
pins: 1 1B, 2 2B, 3 3B, 4 4B, 5 5B, 6 6B, 7 7B, 8 E, 9 COM, 10 7C, 11 6C, 12 5C, 13 4C, 14 3C, 15 2C, 16 1C

## VIPER22A
designator U?
footprint SOP-8_L5.0-W4.0-P1.27-LS6.0-BL
pins: 1 GND, 2 GND, 3 COMP, 4 VDD, 5 DRAIN, 6 DRAIN, 7 DRAIN, 8 DRAIN

## W5500
designator U?
footprint LQFP-48_L7.0-W7.0-P0.50-LS9.0-BL
pins: 1 TXN, 2 TXP, 3 AGND, 4 AVDD, 5 RXN, 6 RXP, 7 DNC, 8 AVDD, 9 AGND, 10 EXRES1, 11 AVDD, 12 NC, 13 NC, 14 AGND, 15 AVDD, 16 AGND, 17 AVDD, 18 VBG, 19 AGND, 20 TOCAP, 21 AVDD, 22 1V2O, 23 RSVD, 24 SPDLED, 25 LINKLED, 26 DUPLED, 27 ACTLED, 28 VDD, 29 GND, 30 XI/CLKIN, 31 XO, 32 SCSn, 33 SCLK, 34 MISO, 35 MOSI, 36 INTn, 37 RSTn, 38 RSVD, 39 RSVD, 40 RSVD, 41 RSVD, 42 RSVD, 43 PMODE2, 44 PMODE1, 45 PMODE0, 46 NC, 47 NC, 48 AGND

## WF183DE
designator U?
footprint LGA-8_L3.8-W3.8-P0.93-BL
pins: 1 SCL, 2 GND, 3 VDD, 4 VS, 5 RX, 6 TX, 7 OWI, 8 SDA

## WS1850
designator U?
footprint QFN-32_L5.0-W5.0-P0.50-BL-EP3.7
pins: 1 I2C, 2 PVDD, 3 DVDD, 4 DVSS, 5 PVSS, 6 NRSTPD, 7 MFIN, 8 MFOUT, 9 SVDD, 10 TVSS, 11 TX1, 12 TVDD, 13 TX2, 14 TVSS, 15 AVDD, 16 VMID, 17 RX, 18 AVSS, 19 AUX1, 20 AUX2, 21 OSCIN, 22 OSCOUT, 23 IRQ, 24 SDA/NSS/RX, 25 D1, 26 D2, 27 D3, 28 D4, 29 D5/SCK, 30 D5/MOSI, 31 D7/SCL/MISO/TX, 32 EA, 33 PAD

## WSD30L40DN
designator Q?
BOM_Manufacturer: WINSOK微硕; Contributor: LCSC; BOM_Supplier: LCSC; BOM_Supplier Part: C148390; BOM_Manufacturer Part: WSD30L40DN; BOM_JLCPCB Part Class: Extended Part; spicePre: Q; spiceSymbolName: WSD30L40DN
footprint DFN-8_L3.0-W3.0-P0.65-BL-A
pins: 1 S, 2 S, 3 S, 4 G, 5 D, 6 D, 7 D, 8 D, 9 D

## WSD90P06DN56
designator Q?  (value not drawn)
Manufacturer: UMW(广东友台半导体); Name: AO3401A; Symbol: AO3401A_C347476; Add into BOM: yes; Type: P沟道; Drain Source Voltage (Vdss): 30V; Continuous Drain Current (Id): 4.1A; Power Dissipation (Pd): 1.4W; Drain Source On Resistance (RDS(on)@Vgs,Id): 65mΩ@10V,4.2A; Gate Threshold Voltage (Vgs(th)@Id): 1.3V@250uA; Total Gate Charge (Qg@Vgs): 9.4nC@4.5V; Input Capacitance (Ciss@Vds): 954pF@15V; Device: AO3401A_C347476; LCSC Part Name: P沟道 30V 4.1A; Supplier Part: C347476; Manufacturer Part: AO3401A; Supplier Footprint: SOT-23; JLCPCB Part Class: Extended Part; Datasheet: https://atta.szlcsc.com/upload/public/pdf/source/20220920/1D2884B4030841D334A38D0CCA0C1153.pdf; Supplier: LCSC; Convert to PCB: yes; Reverse Transfer Capacitance (Crss@Vds): -; Operating Temperature: -
footprint DFN-8_L5.9-W5.2-P1.27-LS6.2-BL
pins: 1 G, 2 S, 3 D

## WSD3042DN56
designator Q?
Designer: U?; Symbol: WSD3042DN56; Device: WSD3042DN56
footprint DFN-8_L5.7-W5.1-P1.27-LS6.1-BL-2
pins: 1 S, 2 S, 3 S, 4 G, 5 D, 6 D, 7 D, 8 D, 9 D

## WSD3066DN33
designator Q?  (value not drawn)
Manufacturer: WINSOK(微硕); Add into BOM: yes; Type: N沟道; Drain Source Voltage (Vdss): 30V; Continuous Drain Current (Id): 50A; Power Dissipation (Pd): 45W; Drain Source On Resistance (RDS(on)@Vgs,Id): 5.7mΩ@10V,35A; Gate Threshold Voltage (Vgs(th)@Id): 2.5V@250uA; Name: WSD3066DN33; Symbol: WSD3066DN33; Device: WSD3066DN33; LCSC Part Name: N沟道 30V 50A; Supplier Part: C148386; Manufacturer Part: WSD3066DN33; Supplier Footprint: DFN 3.3x3.3-8; JLCPCB Part Class: Extended Part; Datasheet: https://atta.szlcsc.com/upload/public/pdf/source/20171122/C148386_15113333960571134031.pdf; Supplier: LCSC; Convert to PCB: yes
footprint DFN-8_L3.3-W3.3-P0.65-BL
pins: 1 S, 2 S, 3 S, 4 G, 5 D, 5 D, 5 D, 5 D

## XC6210B332MR
designator U？
BOM_Manufacturer: Torex Semicon; Contributor: LCSC; BOM_Supplier: LCSC; BOM_Supplier Part: C424705; BOM_Manufacturer Part: XC6210B332MR; BOM_JLCPCB Part Class: Extended Part; spicePre: U; spiceSymbolName: XC6210B332MR_C424705
footprint SOT-25_L3.0-W1.6-P0.95-LS2.8-BL
pins: 1 VIN, 2 VSS, 3 CE, 4 NC, 5 VOUT

## XW06A/B
designator U?
footprint SOP-16_L10.0-W3.9-P1.27-LS6.0-BL
pins: 1 GND, 2 C1, 3 CSEL, 4 PAD0, 5 PAD1, 6 PAD2, 7 PAD3, 8 PAD4, 9 PAD5, 10 OUT5, 11 OUT4, 12 OUT3, 13 OUT2, 14 OUT1, 15 OUT0, 16 VDD